# Altium schematic symbol library UWRT_Schematic_Library_2020.SchLib: 766 symbols (part 4 of 8)
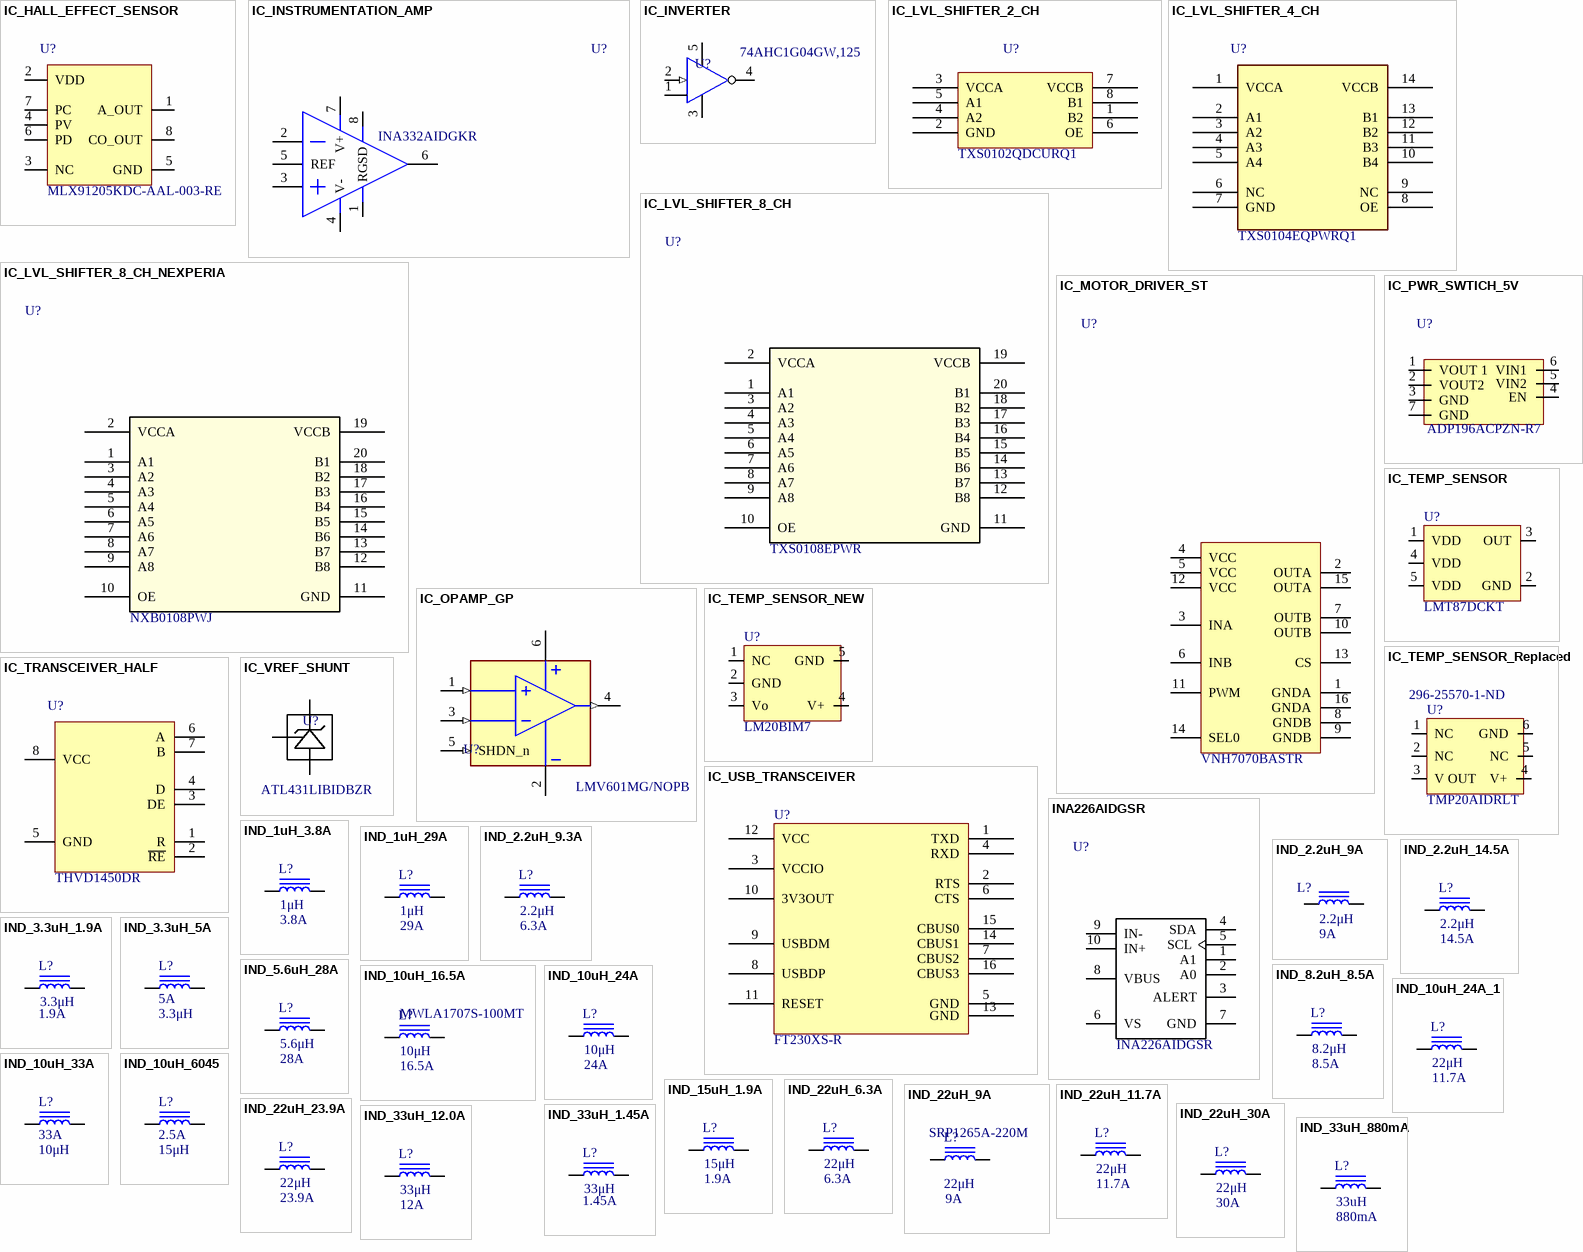
[diagram p28: symbols IC_HALL_EFFECT_SENSOR to IND_33uH_880mA]

## IC_OPAMP_GP
designator U?, comment LMV601MG/NOPB
IC OPAMP GP 1 CIRCUIT SC70-6; Manufacturer: Texas Instruments; Ratings: 2.7-5.5V, -25-125degC, 1MHz; Manufacturer Part Number: LMV601MG/NOPB; Value: LMV601MG/NOPB
footprint SOT65P210X110-6N
pins: 1 IN+ (in), 2 GND (power), 3 IN- (in), 4 OUT (out), 5 SHDN_n (in), 6 V+ (power)

## IC_PWR_SWTICH_5V
designator U?  Supplier Part Number 1: ADP196ACPZN-R7
IC PWR SWITCH N-CHAN 1:1 6LFCSP; Manufacturer 1: Analog Devices Inc.; Package/Footprint: 6-UDFN Exposed Pad, CSP; Manufacturer Part Number 1: ADP196ACPZN-R7; Mounting Type: SMD; Supplier 1: Arrow Electronics
footprint CP_6_3_ADI-M
pins: 1 VOUT 1, 2 VOUT2, 3 GND "Receiver output", 4 EN "Inverting driver output", 5 VIN2 "Inverting driver output", 6 VIN1 "Noninverting driver output", 7 GND "Receiver output"

## IC_TEMP_SENSOR
designator U?  Manufacturer Part Number 1: LMT87DCKT
SENSOR ANALOG -50C-150C SC70-5; Manufacturer 1: Texas Instruments; Package/Footprint: SC-70; Mounting Type: SMD; Supplier 1: Digi-Key; Supplier Part Number 1: 296-35730-1-ND
footprint SOT65P210X110-5N
pins: 1 VDD, 2 GND, 3 OUT, 4 VDD, 5 VDD

## IC_TEMP_SENSOR_NEW
designator U?  Manufacturer Part Number 1: LM20BIM7
SENSOR ANALOG -55C-130C SC70-5; Manufacturer 1: Texas Instruments; Package/Footprint: SC-70; Mounting Type: SMD; Supplier 1: Digi-Key; Supplier Part Number 1: LM20BIM7CT-ND
footprint SOT65P210X110-5N
pins: 1 NC, 2 GND, 3 Vo, 4 V+, 5 GND

## IC_TEMP_SENSOR_Replaced
designator U?  Manufacturer Part Number 1: TMP20AIDRLT  Supplier Part Number 1: 296-25570-1-ND
SENSOR ANALOG -55C-130C 6SOT; Manufacturer 1: Texas Instruments; Package/Footprint: SOT-563; Mounting Type: SMD; Supplier 1: Digi-Key
footprint DRL6-M
pins: 1 NC, 2 NC, 3 V OUT, 4 V+, 5 NC, 6 GND

## IC_TRANSCEIVER_HALF
designator U?  Manufacturer Part Number 1: THVD1450DR
IC TRANSCEIVER HALF 1/1 8SOIC; Manufacturer 1: Texas Instruments; Protocol: RS485; Supplier 1: Digi-Key; Supplier Part Number 1: 296-50395-1-ND; Package: 8-SOIC
footprint SOIC127P600X175-8N
pins: 1 R, 2 ~{RE}, 3 DE, 4 D, 5 GND, 6 A, 7 B, 8 VCC

## IC_USB_TRANSCEIVER
designator U?  Manufacturer Part Number 1: FT230XS-R
IC USB SERIAL BASIC UART 16SSOP; Manufacturer 1: FTDI, Future Technology Devices International Ltd; Supplier 1: Digi-Key; Supplier Part Number 1: 768-1135-1-ND
footprint SSOP16-0.635-5X4MM
pins: 1 TXD, 2 RTS, 3 VCCIO, 4 RXD, 5 GND, 6 CTS, 7 CBUS2, 8 USBDP, 9 USBDM, 10 3V3OUT, 11 RESET, 12 VCC, 13 GND, 14 CBUS1, 15 CBUS0, 16 CBUS3

## IC_VREF_SHUNT
designator U?  Manufacturer Part Number 1: ATL431LIBIDBZR
IC VREF SHUNT 36V 0.5% SOT23-3; Manufacturer 1: Texas Instruments; Supplier 1: Digi-Key; Supplier Part Number 1: 296-53203-1-ND
footprint SOT23-3 (SOT23, 3-Leads, Body 2.90x2.30mm, Pitch 0.95mm, IPC Medium Density)
pins: 1 CATHODE, 2 REF, 3 ANODE

## INA226AIDGSR
designator U?  Manufacturer Part Number 1: INA226AIDGSR
IC MONITOR PWR/CURR BIDIR 10MSOP; Manufacturer 1: Texas Instruments; Supplier 1: Digi-Key; Supplier Part Number 1: 296-29034-6-ND
footprint INA226AIDGSR
pins: 1 A1, 2 A0, 3 ALERT, 4 SDA, 5 SCL, 6 VS, 7 GND, 8 VBUS, 9 IN-, 10 IN+

## IND_1uH_3.8A
designator L?  value 1μH  Current Rating: 3.8A
INDUCTOR 1UH 3.8A 33 MOHM SMD; Manufacturer 1: Bourns Inc.; Manufacturer Part Number 1: SDR0403-1R0ML; Supplier Part Number 1: SDR0403-1R0MLCT-ND; Supplier 1: Digi-Key; Mounting Type: SMD; Package/Footprint: SMD
footprint IND_BOURNS_SDR04
pins: 1, 2

## IND_1uH_29A
designator L?  Current Rating: 29A  Inductance: 1μH
INDUCTOR 1UH 29A 2.5 MOHM SMD; Manufacturer 1: Bourns Inc.; Manufacturer Part Number 1: SRP1250-1R0M; Inductance Tolerance: 20%; Saturation Current: 50A; Test Frequency: 100kHz; DC Resistance (DCR): 2.5mOhm; Mounting Type: SMD; Supplier 1: Digi-Key; Supplier Part Number 1: SRP1250-1R0MCT-ND
footprint IND_BOURNS_SRP1250
pins: 1, 2

## IND_2.2uH_9.3A
designator L?  Inductance: 2.2μH  Max DC Current: 6.3A
INDUCTOR 2.2UH 6.3A 13 MOHM SMD; Manufacturer 1: Bourns; Manufacturer Part Number 1: SRN8040-2R2Y; Material: Steel; DC Resistance (DCR): 13mR; Self Resonant Frequency: 40MHz; Test Frequency: 100kHz; Shielding: Shielded; Inductance Tolerance: 30%; Saturation Current: 7.4A; Supplier 1: Digi-Key; Mounting Type: SMD; Package/Footprint: SMD; Number of Pins: 2; Contact Plating: Tin; Composition: Wirewound; DC Current: 6.3A; Military Standard: Not; RMS Current (Irms): 6.3A; Current Rating: 6.3A; ComponentLink7URL: https://datasheet.ciiva.com/1049/srn8040-1049455.pdf?src-supplier=Digi-Key; ComponentLink7Description: https://datasheet.ciiva.com/1049/srn8040-1049455.pdf?src-supplier=Digi-Key; ComponentLink8URL: https://datasheet.ciiva.com/17284/srn8040-17284783.pdf?src-supplier=Avnet+Europe; ComponentLink8Description: https://datasheet.ciiva.com/17284/srn8040-17284783.pdf?src-supplier=Avnet+Europe; ComponentLink9URL: https://datasheet.ciiva.com/48691/001056460-da-01-en-mag-abg-leist-ind-srn8040-2r2y-2-2uh-smd-48691836.pdf?src-supplier=Conrad; ComponentLink9Description: https://datasheet.ciiva.com/48691/001056460-da-01-en-mag-abg-leist-ind-srn8040-2r2y-2-2uh-smd-48691836.pdf?src-supplier=Conrad; Supplier Part Number 1: SRN8040-2R2YCT-ND
footprint IND_BOURNS_SRN80
pins: 1, 2

## IND_2.2uH_9A
designator L?  Current Rating: 9A  Inductance: 2.2μH
INDUCTOR 2.2UH 9A 6.8 MOHM SMD; Manufacturer 1: Bourns; Manufacturer Part Number 1: SDR1806-2R2ML; Supplier 1: Digi-Key; Mounting Type: SMD; DC Resistance (DCR): 6.8mOhm; Supplier Part Number 1: SDR1806-2R2MLCT-ND
footprint IND_BOURNS_SDR1806
pins: 1, 2

## IND_2.2uH_14.5A
designator L?  Current Rating: 14.5A  Inductance: 2.2μH
INDUCTOR 2.2UH 14.5A 9.41 MOHM; Manufacturer 1: Vishay Dale; Manufacturer Part Number 1: IHLP3232DZER2R2M11; Inductance Tolerance: 20%; Saturation Current: 10.2A; DC Resistance (DCR): 9.41mOhm; Mounting Type: SMD; Supplier 1: Digi-Key; Supplier Part Number 1: 541-1350-1-ND
footprint IND_VISHAY_IHLP3232DZER2R2M11
pins: 1, 2

## IND_3.3uH_1.9A
designator L?  DC Current: 1.9A  Inductance: 3.3μH
INDUCTOR 3.3UH SMD 0603; Manufacturer 1: KEMET; Manufacturer Part Number 1: L0603B3R3MDWFT; Saturation Current: 2.3A; Supplier 1: Digi-Key; RMS Current (Irms): 1.9A; Current Rating: 1.9A; Supplier Part Number 1: SRN6045-150MCT-ND
footprint IND_BOURNS_SRN6045
pins: 1, 2

## IND_3.3uH_5A
designator L?  Current Rating: 5A  Inductance: 3.3μH
INDUCTOR 3.3UH 5A 21 MOHM SMD; Manufacturer 1: Bourns Inc.; Manufacturer Part Number 1: SRN6045TA-3R3Y; DC Resistance (DCR): 21mOhm; Inductance Tolerance: 30%; Saturation Current: 7.8A; Test Frequency: 1MHz; Mounting Type: SMD; Supplier 1: Digi-Key; Supplier Part Number 1: SRN6045TA-3R3YCT-ND
footprint IND_SRN6045TA-3R3Y
pins: 1, 2

## IND_5.6uH_28A
designator L?  Current Rating: 28A  Inductance: 5.6μH
FIXED IND 5.6UH 28A 4.44MOHM SMD; Manufacturer 1: Vishay Dale; Manufacturer Part Number 1: IHLP6767GZER5R6M11; Inductance Tolerance: 20%; Saturation Current: 21A; DC Resistance (DCR): 4.44mOhm; Mounting Type: SMD; Supplier 1: Digi-Key; Supplier Part Number 1: 541-1283-1-ND
footprint IND_VISHAY_IHLP6767GZ11 (Molded Inductor, 2-Leads, Body 17.15x17.03mm, IPC Medium Density)
pins: 1, 2

## IND_8.2uH_8.5A
designator L?  value 8.2μH  Current Rating: 8.5A
FIXED IND 8.2UH 8.5A 28 MOHM SMD; Manufacturer 1: Vishay Dale; Manufacturer Part Number 1: IHLP5050CEER8R2M01; Supplier Part Number 1: 541-2596-6-ND; Supplier 1: Digi-Key; Mounting Type: SMD; Package/Footprint: SMD
footprint IND_8.2uH_8.5A
pins: 1, 2

## IND_10uH_16.5A
designator L?  Manufacturer Part Number 1: MWLA1707S-100MT  Current Rating: 16.5A  Inductance: 10μH
FIXED IND 10UH 13MOHM 24000MA; Manufacturer 1: Shenzhen Sunlord Electronics Co., Ltd.; DC Resistance (DCR): 13mR; Saturation Current: 24A; Supplier 1: Digi-Key; Supplier Part Number 1: 3442-MWLA1707S-100MTCT-ND
footprint IND_MWLA1707S
pins: 1, 2

## IND_10uH_24A
designator L?  Current Rating: 24A  Inductance: 10μH
FIXED IND 10UH 24A 8.6 MOHM SMD; Manufacturer 1: Pulse Electronics Power; Manufacturer Part Number 1: PA2247.103NLT; DC Resistance (DCR): 8.6mR; Saturation Current: 26A; Supplier 1: Digi-Key; Supplier Part Number 1: 553-PA2247.103NLTCT-ND
footprint IND_PULSE_PA2247
pins: 1, 2

## IND_10uH_24A_1
designator L?  Current Rating: 11.7A  Inductance: 22μH
INDUCTOR 22UH 11.7A 22.27 MOHM; Manufacturer 1: Vishay Dale; Manufacturer Part Number 1: IHLP6767GZER220M51; DC Resistance (DCR): 22.27mR; Inductance Tolerance: 20%; Saturation Current: 11A; Supplier 1: Digi-Key; Supplier Part Number 1: 541-1369-1-ND; Mounting Type: SMD
footprint IND_VISHAY_IHLP6767GZ51
pins: 1, 2

## IND_10uH_33A
designator L?  Current Rating: 33A  Inductance: 10μH
FIXED IND 10UH 33A 1.92 MOHM SMD; Manufacturer 1: EPCOS - TDK Electronics; Manufacturer Part Number 1: B82559B7103A027; Supplier Part Number 1: 495-B82559B7103A027CT-ND; Supplier 1: Digi-Key
footprint IND_B82559B7103A027 (Precision Wire Wound Inductor, 2-Leads, Body 27.65x25.65mm, IPC Medium Density)
pins: 1, 2

## IND_10uH_6045
designator L?  Current Rating: 2.5A  Inductance: 15μH
INDUCTOR 10UH 2.5A 58.6MOHM SMD; Manufacturer 1: Bourns Inc.; Manufacturer Part Number 1: SRN6045-100M; Supplier Part Number 1: SRN6045-100MTR-ND; Supplier 1: Digi-Key
footprint IND_BOURNS_SRN6045
pins: 1, 2

## IND_15uH_1.9A
designator L?  Current Rating: 1.9A  Inductance: 15μH
INDUCTOR 15UH 1.9A 95.8MOHM SMD; Manufacturer 1: Bourns Inc.; Manufacturer Part Number 1: SRN6045-150M; DC Resistance (DCR): 95.8mR; Saturation Current: 2.3A; Supplier 1: Digi-Key; Supplier Part Number 1: SRN6045-150MCT-ND
footprint IND_BOURNS_SRN6045
pins: 1, 2

## IND_22uH_6.3A
designator L?  Current Rating: 6.3A  Inductance: 22μH
FIXED IND 22UH 6.3A 25.7MOHM SMD; Manufacturer 1: Eaton - Electronics Division; Manufacturer Part Number 1: HC9-220-R; DC Resistance (DCR): 22.27mR; Inductance Tolerance: 20%; Saturation Current: 11A; Supplier 1: Digi-Key; Supplier Part Number 1: 513-1349-1-ND; Mounting Type: SMD
pins: 1, 2

## IND_22uH_9A
designator L?  Manufacturer Part Number 1: SRP1265A-220M  Current Rating: 9A  Inductance: 22μH
22UH 20%  SMD POWER CHOKE; Manufacturer 1: Bourns Inc.; DC Resistance (DCR): 37mOhms; Saturation Current: 12A; Inductance Tolerance: 20%; Mounting Type: SMD; Supplier 1: Arrow Electronics; Supplier Part Number 1: SRP1265A-220M
footprint IND_BOURNS_SRP1265
pins: 1, 2

## IND_22uH_11.7A
designator L?  Current Rating: 11.7A  Inductance: 22μH
FIXED IND 10UH 13MOHM 24000MA; Manufacturer 1: Vishay Dale; Manufacturer Part Number 1: IHLP6767GZER220M51; DC Resistance (DCR): 22.27mR; Inductance Tolerance: 20%; Saturation Current: 11A; Supplier 1: Digi-Key; Supplier Part Number 1: 541-1369-1-ND; Mounting Type: SMD
footprint IND_VISHAY_IHLP6767GZ51
pins: 1, 2

## IND_22uH_23.9A
designator L?  Current Rating: 23.9A  Inductance: 22μH
FIXED IND 22UH 30A 2.4 MOHM SMD; Manufacturer 1: Würth Elektronik; Manufacturer Part Number 1: 74437529203220; DC Resistance (DCR): 4.9mR; Inductance Tolerance: 20%; Saturation Current: 23.9A; Supplier 1: Digi-Key; Mounting Type: SMD; Supplier Part Number 1: 732-11711-ND
footprint IND_VISHAY_IHLP6767GZ51
footprint 74437529203220
pins: 1, 2

## IND_22uH_30A
designator L?  Current Rating: 30A  Inductance: 22μH
FIXED IND 22UH 30A 2.4 MOHM SMD; Manufacturer 1: Würth Elektronik; Manufacturer Part Number 1: 7443642200; DC Resistance (DCR): 2.4mR; Inductance Tolerance: 15%; Saturation Current: 30A; Supplier 1: Digi-Key; Mounting Type: SMD; Supplier Part Number 1: 732-5628-ND
footprint IND_VISHAY_IHLP6767GZ51
footprint 74437529203220
footprint Model Name (Footprint not found)
footprint 7443642200
pins: 1, 2

## IND_33uH_1.45A
designator L?  DC Current: 1.45A  Inductance: 33μH
INDUCTOR 33UH 1.45A SMD ROHS; Manufacturer 1: CENKER; Manufacturer Part Number 1: CKCS6045-33uH; DC Resistance (DCR): 137mΩ; RMS Current (Irms): 1.45A; LCSC Number: C354635
footprint IND_CKCS6045
pins: 1, 2

## IND_33uH_12.0A
designator L?  Current Rating: 12A  Inductance: 33μH
INDUCTOR 33UH 12A 37 MOHM SMD; Manufacturer 1: Pulse Electronics Power; Manufacturer Part Number 1: PA4344.333ANLT; DC Resistance (DCR): 37mR; Inductance Tolerance: 20%; Saturation Current: 12A; Mounting Type: SMD; Supplier 1: Digi-Key; Supplier Part Number 1: 553-4036-1-ND
footprint IND_PULSE_PA4344
pins: 1, 2

## IND_33uH_880mA
designator L?  RMS Current (Irms): 880mA  Inductance: 33uH  (hidden comment: IND_33uH_880mA)
INDUCTOR 33UH 880MA 250MOHM SMD; Manufacturer 1: Bourns; Manufacturer Part Number 1: SDR0604-330KL; DC Resistance (DCR): 250mR; Inductance Tolerance: 10%; Saturation Current: 1.1A; Supplier 1: Digi-Key; Max DC Current: 880mA; DC Current: 880mA; Military Standard: Not; Current Rating: 880mA; Supplier Part Number 1: SDR0604-330KLCT-ND
footprint IND_BOURNS_SDR0604
pins: 1, 2

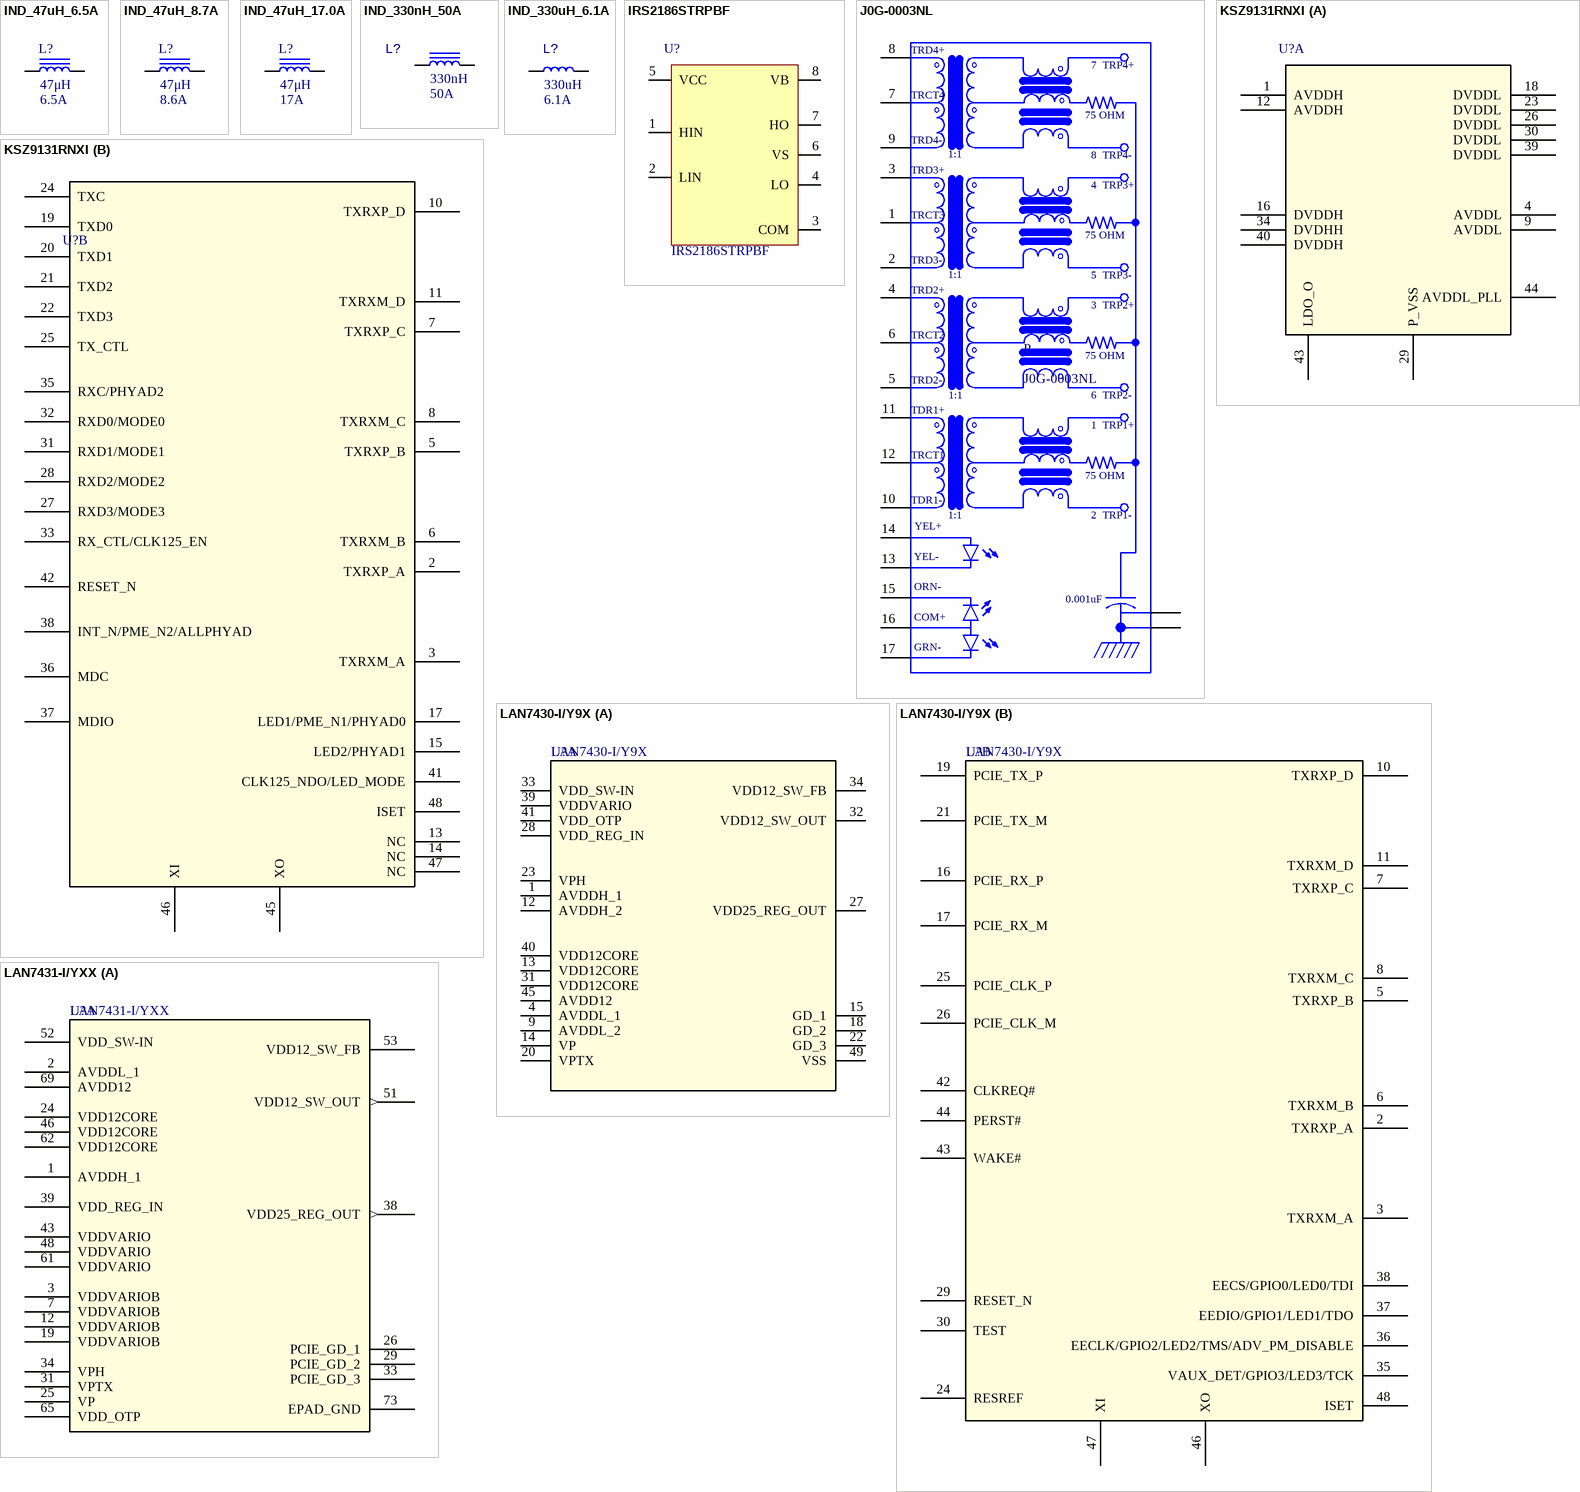
[diagram p10: symbols IND_47uH_6.5A to LAN7431-I/YXX]

## IND_47uH_6.5A
designator L?  Current Rating: 6.5A  Inductance: 47μH
FIXED IND 47UH 6.5A 90 MOHM SMD; Manufacturer 1: Bourns Inc.; Manufacturer Part Number 1: SRP1265A-470M; DC Resistance (DCR): 90mR; Saturation Current: 9A; Supplier 1: Digi-Key; Supplier Part Number 1: SRP1265A-470MCT-ND
footprint IND_BOURNS_SRP1265
pins: 1, 2

## IND_47uH_8.7A
designator L?  Saturation Current: 8.6A  Inductance: 47μH
INDUCTOR 47UH 8.7A 42.7 MOHM; Manufacturer 1: Vishay Dale; Manufacturer Part Number 1: IHLP6767GZER220M51; DC Resistance (DCR): 42.7mR; Current Rating: 8.7A; Mounting Type: SMD; Supplier 1: Digi-Key; Supplier Part Number 1: 541-1290-1-ND
footprint IND_VISHAY_IHLP6767GZ51
pins: 1, 2

## IND_47uH_17.0A
designator L?  Current Rating: 17A  Inductance: 47μH
INDUCTOR 47UH 17A 20.8 MOHM SMD; Manufacturer 1: Pulse Electronics Power; Manufacturer Part Number 1: PA4349.473ANLT; DC Resistance (DCR): 20.8mR; Inductance Tolerance: 20%; Saturation Current: 12A; Mounting Type: SMD; Supplier 1: Digi-Key; Supplier Part Number 1: 553-4050-1-ND
footprint IND_PULSE_PA4349
pins: 1, 2

## IND_330nH_50A
designator L?  Max DC Current: 50A  Inductance: 330nH
INDUCTOR 330NH 47.5A 0.165 MOHM; Manufacturer 1: Würth Elektronik; Manufacturer Part Number 1: 744309033; Mounting Type: SMD; Supplier 1: Digi-Key; Supplier Part Number 1: 732-3006-1-ND; Verified: No
footprint WE-HCM 1390 (SMD Inductor, 2-Leads, Body 12,50x13,00mm)
pins: 1, 2

## IND_330uH_6.1A
designator L?  Current Rating: 6.1A  Inductance: 330uH
General Purpose Inductor; Manufacturer: Wurth Electronics; Manufacturer Part Number: 74437529203331; Supplier 1: Digi-Key; RoHS: Yes; Category: Fixed Inductors; Stock 1: 443; Pricing 1: 1=8.85000, 50=7.76200, 100=6.93000, 270=6.30000 (USD); Inductor Type: GENERAL PURPOSE INDUCTOR; REACH SVHC: Yes; RoHS Compliant: Yes; ComponentLink1URL: https://datasheet.ciiva.com:443/pdfs/VipMasterIC/IC/MIDC/MIDC-S-A0004023785/MIDC-S-A0004024368-1.pdf?src-supplier=IHS+Markit; ComponentLink1Description: https://datasheet.ciiva.com:443/pdfs/VipMasterIC/IC/MIDC/MIDC-S-A0004023785/MIDC-S-A0004024368-1.pdf?src-supplier=IHS+Markit; ComponentLink2URL: https://katalog.we-online.de/pbs/datasheet/74437529203331.pdf?src-supplier=Digi-Key; ComponentLink2Description: https://katalog.we-online.de/pbs/datasheet/74437529203331.pdf?src-supplier=Digi-Key; Supplier Part Number 1: 732-11718-ND
footprint 74437529203331
pins: 1, 2

## IRS2186STRPBF
designator U?  Manufacturer Part Number 1: IRS2186STRPBF
IC DRIVER HI/LO SIDE 600V 8-SOIC; Manufacturer 1: International Rectifier; Max Supply Current: 240uA; Number of Outputs: 2; Max Power Dissipation: 625mW; Fall Time: 30ns; Turn-Off Delay Time: 170ns; Rise Time: 38ns; Propagation Delay: 250ns; Max Output Current: 4A; Supplier 1: Digi-Key; Number of Pins: 8; Number of Drivers: 2; Turn-On Delay Time: 170ns; Power Dissipation: 625mW; Output Current: 4A; Supplier Part Number 1: IRS2186STRPBFCT-ND
footprint 8-SOIC_M (SOIC, 8-Leads, Body 5x4mm, Pitch 1.27mm, IPC Low Density)
pins: 1 HIN, 2 LIN, 3 COM, 4 LO, 5 VCC, 6 VS, 7 HO, 8 VB

## J0G-0003NL
designator P
1 Port RJ45 Magjack Connector Through Hole 10/100/1000 Base-T, AutoMDIX; MF: Pulse Electronics; Digi-Key_Part_Number: 553-1852-ND; Package: Custom Package Pulse Electronics Network; MP: J0G-0003NL; SnapEDA_Link: https://www.snapeda.com/parts/J0G-0003NL/Pulse%20Electronics%20Network/view-part/368728/?ref=snap; Digi-Key_Purchase_URL: https://www.digikey.com/product-detail/en/pulse-electronics-network/J0G-0003NL/553-1852-ND/2264761?utm_source=snapeda&utm_medium=aggregator&utm_campaign=symbol; Value: *
footprint PULSE_J0G-0003NL
pins: 1 TRCT3, 2 TRD3-, 3 TRD3+, 4 TRD2+, 5 TRD2-, 6 TRCT2, 7 TRCT4, 8 TRD4+, 9 TRD4-, 10 TDR1-, 11 TDR1+, 12 TRCT1, 13 YEL-, 14 YEL+, 15 ORN-, 16 COM+, 17 GRN-, SH1 SHIELD (power), SH2 SHIELD (power)
text: 7  TRP4+; 75 OHM; 1:1; 8  TRP4-; 4  TRP3+; 5  TRP3-; 3  TRP2+; 6  TRP2-; 1  TRP1+; 2  TRP1-; 0.001uF

## KSZ9131RNXI
designator U?
4/4 Transceiver Full, Half Gigabit Ethernet 48-QFN (7x7); Manufacturer 1: Microchip Technology; Manufacturer Part Number 1: KSZ9131RNXI; Supplier 1: Digi-Key; Supplier Part Number 1: 150-KSZ9131RNXI-ND
footprint KSZ9131RNXI
part A pins: 1 AVDDH (power), 4 AVDDL (power), 9 AVDDL (power), 12 AVDDH (power), 16 DVDDH (power), 18 DVDDL (power), 23 DVDDL (power), 26 DVDDL (power), 29 P_VSS (power), 30 DVDDL (power), 34 DVDHH (power), 39 DVDDL (power), 40 DVDDH (power), 43 LDO_O (power), 44 AVDDL_PLL (power)
part B pins: 2 TXRXP_A, 3 TXRXM_A, 5 TXRXP_B, 6 TXRXM_B, 7 TXRXP_C, 8 TXRXM_C, 10 TXRXP_D, 11 TXRXM_D, 13 NC, 14 NC, 15 LED2/PHYAD1, 17 LED1/PME_N1/PHYAD0, 19 TXD0, 20 TXD1, 21 TXD2, 22 TXD3, 24 TXC, 25 TX_CTL, 27 RXD3/MODE3, 28 RXD2/MODE2, 31 RXD1/MODE1, 32 RXD0/MODE0, 33 RX_CTL/CLK125_EN, 35 RXC/PHYAD2, 36 MDC, 37 MDIO, 38 INT_N/PME_N2/ALLPHYAD, 41 CLK125_NDO/LED_MODE, 42 RESET_N, 45 XO, 46 XI, 47 NC, 48 ISET

## LAN7430-I/Y9X
designator U?  Manufacturer Part Number 1: LAN7430-I/Y9X
IC ETHERNET CNTRLR GPIO 48SQFN; Manufacturer 1: Microchip Technology; Supplier 1: Digi-Key; Supplier Part Number 1: LAN7430-I/Y9X-ND
footprint LAN7430-I/Y9X-ND
part A pins: 1 AVDDH_1, 4 AVDDL_1, 9 AVDDL_2, 12 AVDDH_2, 13 VDD12CORE, 14 VP, 15 GD_1, 18 GD_2, 20 VPTX, 22 GD_3, 23 VPH, 27 VDD25_REG_OUT, 28 VDD_REG_IN, 31 VDD12CORE, 32 VDD12_SW_OUT, 33 VDD_SW-IN, 34 VDD12_SW_FB, 39 VDDVARIO, 40 VDD12CORE, 41 VDD_OTP, 45 AVDD12, 49 VSS
part B pins: 2 TXRXP_A, 3 TXRXM_A, 5 TXRXP_B, 6 TXRXM_B, 7 TXRXP_C, 8 TXRXM_C, 10 TXRXP_D, 11 TXRXM_D, 16 PCIE_RX_P, 17 PCIE_RX_M, 19 PCIE_TX_P, 21 PCIE_TX_M, 24 RESREF, 25 PCIE_CLK_P, 26 PCIE_CLK_M, 29 RESET_N, 30 TEST, 35 VAUX_DET/GPIO3/LED3/TCK, 36 EECLK/GPIO2/LED2/TMS/ADV_PM_DISABLE, 37 EEDIO/GPIO1/LED1/TDO, 38 EECS/GPIO0/LED0/TDI, 42 CLKREQ#, 43 WAKE#, 44 PERST#, 46 XO, 47 XI, 48 ISET

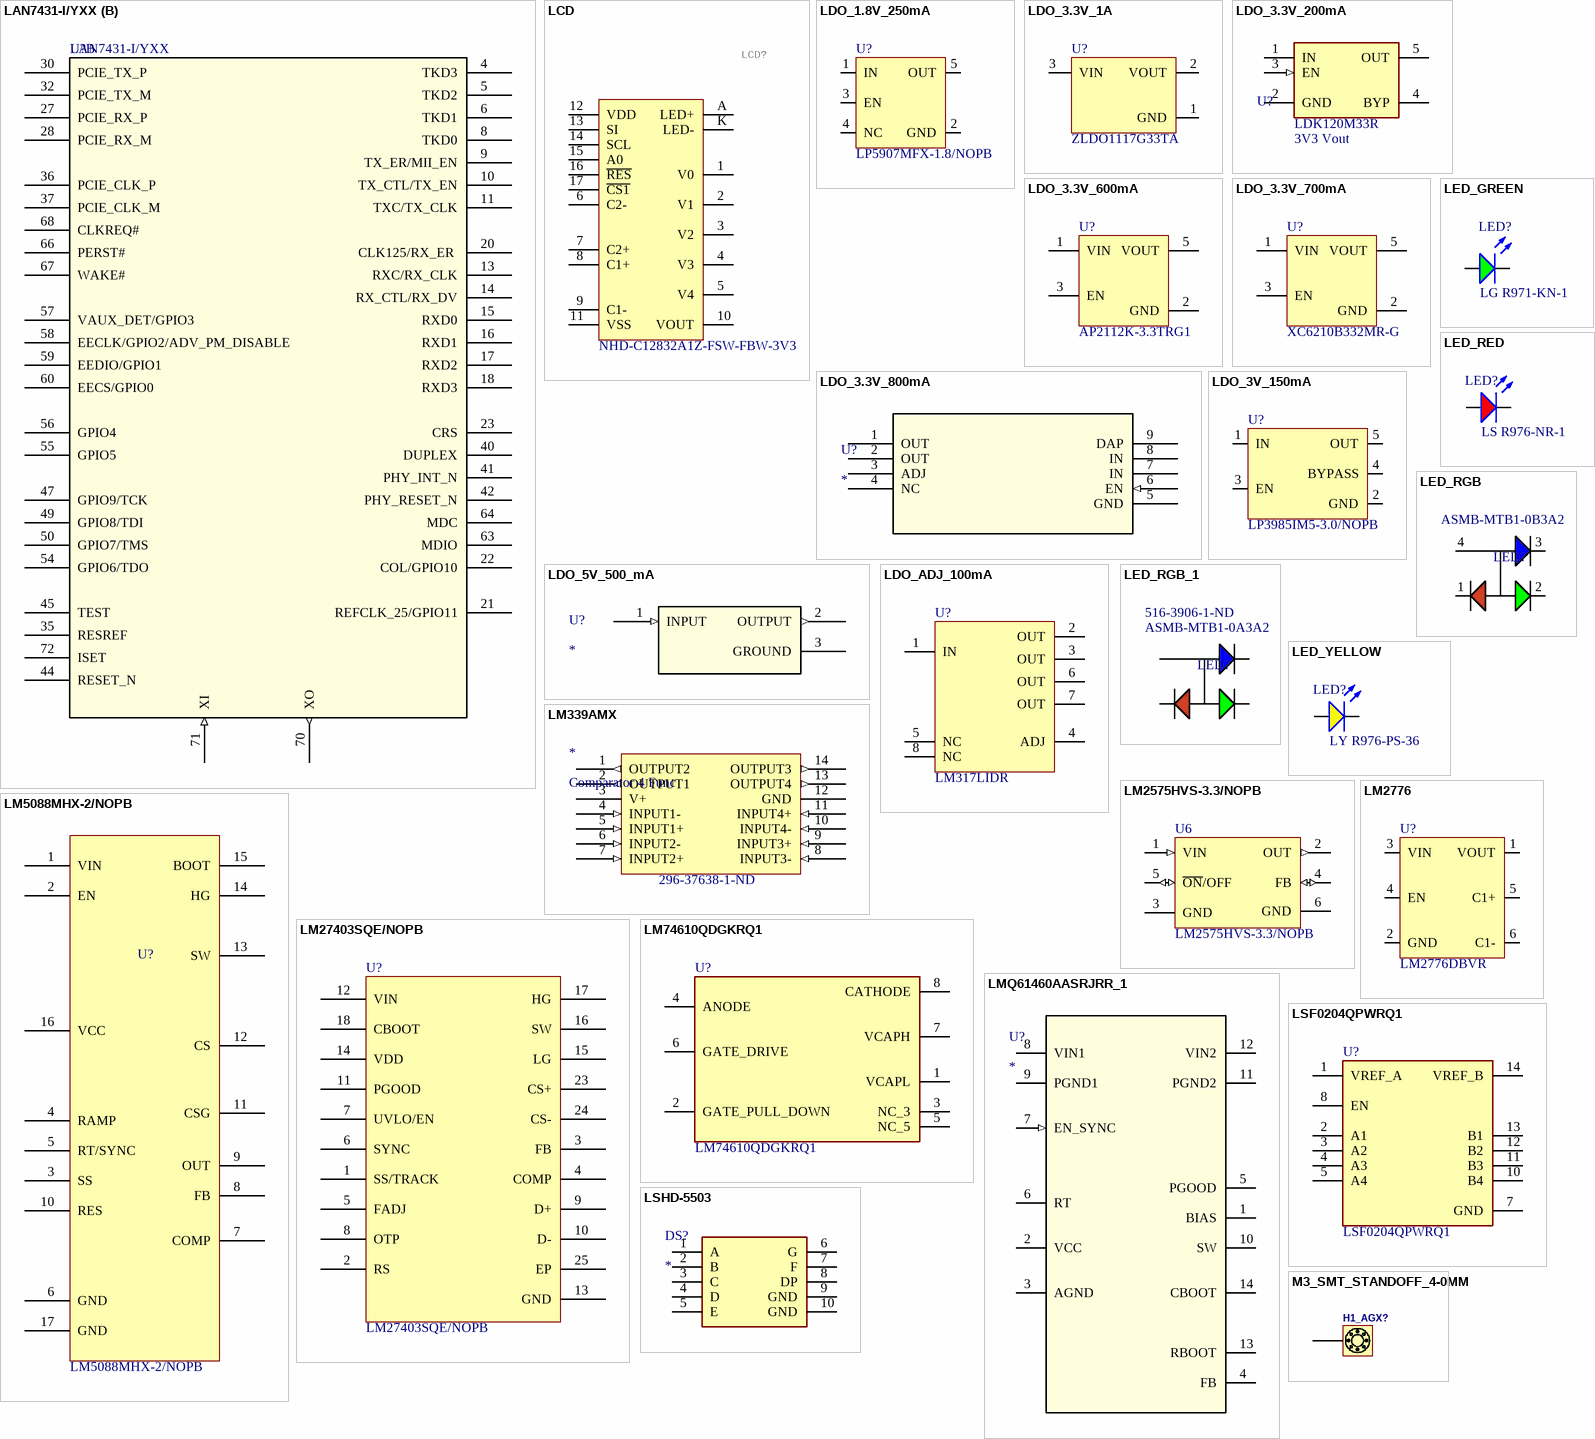
[diagram p11: symbols LAN7431-I/YXX to M3_SMT_STANDOFF_4-0MM]

## LAN7431-I/YXX
designator U?  Manufacturer Part Number 1: LAN7431-I/YXX
IC ETHERNET CNTRLR GPIO 72SQFN; Manufacturer 1: Microchip; Supplier 1: Digi-Key; Supplier Part Number 1: LAN7431-I/YXX-ND
part A pins: 1 AVDDH_1 (power), 2 AVDDL_1 (power), 3 VDDVARIOB (power), 7 VDDVARIOB (power), 12 VDDVARIOB (power), 19 VDDVARIOB (power), 24 VDD12CORE (power), 25 VP (power), 26 PCIE_GD_1 (power), 29 PCIE_GD_2 (power), 31 VPTX (power), 33 PCIE_GD_3 (power), 34 VPH (power), 38 VDD25_REG_OUT (out), 39 VDD_REG_IN (power), 43 VDDVARIO (power), 46 VDD12CORE (power), 48 VDDVARIO (power), 51 VDD12_SW_OUT (out), 52 VDD_SW-IN (power), 53 VDD12_SW_FB (power), 61 VDDVARIO (power), 62 VDD12CORE (power), 65 VDD_OTP (power), 69 AVDD12 (power), 73 EPAD_GND
part B pins: 4 TKD3, 5 TKD2, 6 TKD1, 8 TKD0, 9 TX_ER/MII_EN, 10 TX_CTL/TX_EN, 11 TXC/TX_CLK, 13 RXC/RX_CLK, 14 RX_CTL/RX_DV, 15 RXD0, 16 RXD1, 17 RXD2, 18 RXD3, 20 CLK125/RX_ER , 21 REFCLK_25/GPIO11, 22 COL/GPIO10, 23 CRS, 27 PCIE_RX_P, 28 PCIE_RX_M, 30 PCIE_TX_P, 32 PCIE_TX_M, 35 RESREF, 36 PCIE_CLK_P, 37 PCIE_CLK_M, 40 DUPLEX, 41 PHY_INT_N, 42 PHY_RESET_N, 44 RESET_N, 45 TEST, 47 GPIO9/TCK, 49 GPIO8/TDI, 50 GPIO7/TMS, 54 GPIO6/TDO, 55 GPIO5, 56 GPIO4, 57 VAUX_DET/GPIO3, 58 EECLK/GPIO2/ADV_PM_DISABLE, 59 EEDIO/GPIO1, 60 EECS/GPIO0, 63 MDIO, 64 MDC, 66 PERST#, 67 WAKE#, 68 CLKREQ#, 70 XO (out), 71 XI (in), 72 ISET

## LCD
designator LCD?  Manufacturer Part Number 1: NHD-C12832A1Z-FSW-FBW-3V3
LCD COG GRAPHIC 128X32; Manufacturer 1: Newhaven Display Intl; Supplier 1: Digi-Key; Supplier Part Number 1: NHD-C12832A1Z-FSW-FBW-3V3-ND
footprint NHDC12832A1ZFSWFBW3V3
pins: 1 V0, 2 V1, 3 V2, 4 V3, 5 V4, 6 C2-, 7 C2+, 8 C1+, 9 C1-, 10 VOUT, 11 VSS, 12 VDD, 13 SI, 14 SCL, 15 A0, 16 ~{RES}, 17 ~{CS1}, A LED+, K LED-

## LDO_1.8V_250mA
designator U?  Manufacturer Part Number 1: LP5907MFX-1.8/NOPB
IC REG LINEAR 1.8V 250MA SOT23-5; Manufacturer 1: Texas Instruments; Current Output: 250mA; Supplier Part Number 1: 296-41463-1-ND; Supplier 1: Digi-Key
footprint LP5907MFX-1.8/NOPB
pins: 1 IN, 2 GND, 3 EN, 4 NC, 5 OUT

## LDO_3.3V_1A
designator U?  Manufacturer Part Number 1: ZLDO1117G33TA
IC REG LINEAR 3.3V 1A SOT223; Manufacturer 1: Diodes Incorperated; Input Voltage (Max): 18V; Voltage Dropout (Max): 1.3V@1A; Package/Footprint: SOT-224; Supplier 1: Digi-Key; Supplier Part Number 1: ZLDO1117G33DICT-ND; Output Voltage (Fixed): 3.3V; Output Current: 1A; Operating Temperature: -40°C - 125°C; Mounting Type: Surface Mount
footprint ZLDO1117G33TA (SOT223, 4-Leads, Body 6.50x7.00mm (avg), Pitch 2.30mm, IPC Medium Density)
pins: 1 GND, 2 VOUT, 3 VIN

## LDO_3.3V_200mA
designator U?  Rating: 3V3 Vout  Manufacturer Part Number: LDK120M33R  (hidden comment: *)
IC REG LINEAR 3.3V 200MA SOT23-5
footprint SOT23-5
pins: 1 IN (power), 2 GND (power), 3 EN (in), 4 BYP, 5 OUT (power)

## LDO_3.3V_600mA
designator U?  Manufacturer Part Number 1: AP2112K-3.3TRG1
IC REG LINEAR 3.3V 600MA SOT25; Manufacturer 1: Diodes Incorporated; Input Voltage (Max): 6V; Voltage Dropout (Max): 0.4V; Package/Footprint: SOT-25; Supplier 1: Digi-Key; Supplier Part Number 1: AP2112K-3.3TRG1DICT-ND; Output Voltage (Fixed): 3.3V; Output Current: 600mA; Operating Temperature: -40°C - 85°C; LCSC Part #: C51118; Mounting Type: SMD
footprint SOT95P285X140-5N (AP2112K-3.3TRG1 LDO)
pins: 1 VIN, 2 GND, 3 EN, 5 VOUT

## LDO_3.3V_700mA
designator U?  Manufacturer Part Number 1: XC6210B332MR-G
IC REG LINEAR 3.3V 700MA SOT25; Manufacturer 1: Diodes Incorporated; Input Voltage (Max): 6V; Voltage Dropout (Max): 0.075V; Package/Footprint: SOT-25; Output Voltage (Fixed): 3.3V; Output Current: 700mA; Operating Temperature: -40°C - 85°C; Mounting Type: SMD; Supplier 1: Digi-Key; Supplier Part Number 1: 893-1075-1-ND
footprint SOT95P285X140-5N (AP2112K-3.3TRG1 LDO)
pins: 1 VIN, 2 GND, 3 EN, 5 VOUT

## LDO_3.3V_800mA
designator U?
footprint LP38511MRX-ADJ/NOPB (233Variable LDO / 2.25V to 5.5V Input Voltage Range)
footprint LP38511MRX-ADJ/NOPB (233Variable LDO / 2.25V to 5.5V Input Voltage Range)
pins: 1 OUT (power), 2 OUT (power), 3 ADJ, 4 NC, 5 GND (power), 6 EN (in), 7 IN (power), 8 IN (power), 9 DAP

## LDO_3V_150mA
designator U?  Manufacturer Part Number 1: LP3985IM5-3.0/NOPB
IC REG LINEAR 3V 150MA SOT23-5; Manufacturer 1: Texas Instruments; Current Output: 150mA; Supplier Part Number 1: LP3985IM5-3.0/NOPBTR-ND; Supplier 1: Digi-Key
footprint SOT23-5
pins: 1 IN, 2 GND, 3 EN, 4 BYPASS, 5 OUT

## LDO_5V_500_mA
designator U?
footprint L78M05CDT-TR (35V to 3.3V LDO)
pins: 1 INPUT (in), 2 OUTPUT (out), 3 GROUND (power)

## LDO_ADJ_100mA
designator U?  Manufacturer Part Number 1: LM317LIDR
IC REG LIN POS ADJ 100MA 8SOIC; Manufacturer 1: Texas Instruments; PSRR: 80dB ~ 65dB (120Hz); Voltage - Input (Max): 38V; Voltage - Output (Min/Fixed): 1.2V; Voltage - Output (Max): 32V; Current - Output: 100mA; Operating Temperature: -40C = 125C; Mounting Type: Surface Mount; Supplier 1: Digi-Key; Supplier Part Number 1: 296-20678-1-ND
footprint LM317LIDR (SOIC-8 LDO)
pins: 1 IN (power) "Unregulated input supply", 2 OUT (power) "Regulator output. A 1.0uF or larger capacitor of any type is required for stability.", 3 OUT (power) "Regulator output. A 1.0uF or larger capacitor of any type is required for stability.", 4 ADJ (power) "Regulator output. A 1.0uF or larger capacitor of any type is required for stability.", 5 NC (power) "Unregulated input supply", 6 OUT (power) "Regulator output. A 1.0uF or larger capacitor of any type is required for stability.", 7 OUT (power) "Regulator output. A 1.0uF or larger capacitor of any type is required for stability.", 8 NC (power) "Unregulated input supply"

## LED_GREEN
designator LED?  Manufacturer Part Number 1: LG R971-KN-1
LED GREEN DIFFUSED 0805 SMD; Manufacturer 1: OSRAM; Forward Voltage Drop: 2.2V; Package/Footprint: 0805; Supplier Part Number 1: 475-1410-1-ND; Supplier 1: Digi-Key; Mounting Type: SMD
footprint LED_0805_GREEN (SMD, 2-Leads, Body 2x1.25mm)
pins: 1 A, 2 K

## LED_RED
designator LED?  Manufacturer Part Number 1: LS R976-NR-1
LED RED DIFFUSED 0805 SMD; Manufacturer 1: OSRAM; Package/Footprint: 0805; Forward Voltage Drop: 2V; Forward Current: 20mA; Supplier Part Number 1: 475-1278-1-ND; Supplier 1: Digi-Key; Mounting Type: SMD
footprint LED_0805_RED (SMD, 2-Leads, Body 2x1.25mm)
pins: 1 A, 2 K

## LED_RGB
designator LED?  Manufacturer Part Number 1: ASMB-MTB1-0B3A2
LED RGB DIFFUSED 4PLCC SMD; Manufacturer 1: Broadcom; Color: Blue,Green,Red; Lens Color: White; Viewing Angle: 115°; Lens Style: Round; Luminous Intensity: 350mcd; Dominant Wavelength: 470nm; Forward Voltage: 3.1V; Test Current: 20mA; Package/Footprint: 4-PLCC; Supplier 1: Digi-Key; Mounting Type: SMD; Number of Pins: 4; Lens Transparency: Diffused; Supplier Part Number 1: 516-ASMB-MTB1-0B3A2CT-ND
footprint LED_RGB
pins: 1 CATHODE (RED), 2 CATHODE (GREEN), 3 CATHODE (BLUE), 4 COMMON ANODE

## LED_RGB_1
designator LED?  Manufacturer Part Number 1: ASMB-MTB1-0A3A2  Supplier Part Number 1: 516-3906-1-ND
LED RGB DIFFUSED 4PLCC SMD; Manufacturer 1: Broadcom; Color: Blue,Green,Red; Lens Color: White; Viewing Angle: 115°; Lens Style: Round; Luminous Intensity: 350mcd; Dominant Wavelength: 470nm; Forward Voltage: 3.1V; Test Current: 20mA; Package/Footprint: 4-PLCC; Mounting Type: SMD; Number of Pins: 4; Lens Transparency: Diffused; Supplier 1: Digi-Key
footprint LED_RGB
pins: 1 CATHODE (RED), 2 CATHODE (GREEN), 3 CATHODE (BLUE), 4 COMMON ANODE

## LED_YELLOW
designator LED?  Manufacturer Part Number 1: LY R976-PS-36
LED YELLOW DIFFUSED 0805 SMD; Manufacturer 1: OSRAM; Forward Voltage Drop: 2.2V; Package: 0805 (2012 Metric); Supplier Part Number 1: 475-2560-1-ND; Supplier 1: Digi-Key
footprint LED_0805_YELLOW (SMD, 2-Leads, Body 2x1.25mm)
pins: 1 A, 2 K

## LM339AMX
designator *, comment Comparator 4 Func  Supplier Part Number 1: 296-37638-1-ND
Comparator, 4 Func, 5000uV Offset-Max, 1300ns Response Time, BIPolar, PDSO14; Manufacturer: TI National Semiconductor; Manufacturer Part Number: LM339AMX; Package Body Material: Plastic; Output Type: OPEN-COLLECTOR; Average Bias Current-Max (IIB): 400nA; Bias Current-Max (IIB) @25C: 250nA; Input Offset Voltage-Max: 4mV; Neg Supply Voltage Limit-Max: 0V; Number of Functions: 4; Package Equivalence Code: SOP14,.25; Power Supplies: 5V; Max Supply Current: 2.5mA; Supply Voltage Limit-Max: 36V; Qualification Status: Not Qualified; Supplier 1: Digi-Key; RoHS: No; Category: Comparators; Stock 1: 4510; Pricing 1: 1=1.51000, 10=1.35100, 25=1.28200, 100=1.05320, 250=0.98452, 500=0.87004, 1000=0.75600 (USD); Package Code: SOP; Number of Pins: 14; Package Shape: Rectangular; Terminal Finish: Tin; Min Operating Temperature: -25°C; Max Operating Temperature: 85°C; JESD-609 Code: e0; Amplifier Type: COMPARATOR; JESD-30 Code: R-PDSO-G14; Moisture Sensitivity Level: 1; Neg Supply Voltage-Nom (Vsup): 0V; Package Style: SMALL OUTLINEMeter; Peak Reflow Temperature (Cel): 235°C; Response Time-Nom: 1300ns; Supply Voltage-Nom (Vsup): 5V; Surface Mount: Yes; Technology: BIPOLAR; Terminal Form: Gull Wing; Terminal Position: DUAL; Length: 8.65mm; Width: 3.9mm; Height - Seated (Max): 1.75mm; Terminal Pitch: 1.27mm; Temperature Grade: OTHER; REACH SVHC: No SVHC; RoHS Compliant: No; ComponentLink1URL: https://www.ti.com:443/lit/ds/symlink/lm139-n.pdf?src-supplier=IHS+Markit; ComponentLink1Description: https://www.ti.com:443/lit/ds/symlink/lm139-n.pdf?src-supplier=IHS+Markit; ComponentLink2URL: https://datasheet.ciiva.com/41798/lm139-n-41798943.pdf?src-supplier=Digi-Key; ComponentLink2Description: https://datasheet.ciiva.com/41798/lm139-n-41798943.pdf?src-supplier=Digi-Key
footprint 14-SOIC
pins: 1 OUTPUT2 (out), 2 OUTPUT1 (out), 3 V+ (power), 4 INPUT1- (in), 5 INPUT1+ (in), 6 INPUT2- (in), 7 INPUT2+ (in), 8 INPUT3- (in), 9 INPUT3+ (in), 10 INPUT4- (in), 11 INPUT4+ (in), 12 GND (power), 13 OUTPUT4 (out), 14 OUTPUT3 (out)

## LM2575HVS-3.3/NOPB
designator U6
Package: None; Price: None; Value: *; MP: LM2575HVS-3.3/NOPB; Availability: Unavailable; Manufacturer Part Number 1: LM2575HVS-3.3/NOPB
footprint VREG_TPS79625KTTR
pins: 1 VIN (in), 2 OUT (out), 3 GND (power), 4 FB (io), 5 ~{ON}/OFF (io), 6 GND (power)

## LM2776
designator U?  Manufacturer Part Number 1: LM2776DBVR
IC REG CHARGE PUMP INV SOT23; Manufacturer 1: Texas Instruments; Supplier Part Number 1: 296-43957-1-ND; Supplier 1: Digi-Key
footprint SOT23-6 (SOT23, 6-Leads, Body 3.05x1.75mm, Pitch 0.95mm, IPC Medium Density)
pins: 1 VOUT, 2 GND, 3 VIN, 4 EN, 5 C1+, 6 C1-

## LM5088MHX-2/NOPB
designator U?, comment Manufacturer Part Number 1: LM5088MHX-2/NOPB  (hidden comment: LM5088)
IC REG CTRLR BUCK 16HTSSOP; Manufacturer 1: Texas Instruments; Supply Voltage: 4.5V - 75V; Switching Frequency: 50kHz - 1MHz; Supplier 1: Digi-Key; Supplier Part Number 1: 296-35302-1-ND; Package: 16-HTSSOP
footprint LM5088
pins: 1 VIN, 2 EN, 3 SS, 4 RAMP, 5 RT/SYNC, 6 GND, 7 COMP, 8 FB, 9 OUT, 10 RES, 11 CSG, 12 CS, 13 SW, 14 HG, 15 BOOT, 16 VCC, 17 GND

## LM27403SQE/NOPB
designator U?  Manufacturer Part Number 1: LM27403SQE/NOPB
IC REG CTRLR BUCK 24WQFN; Manufacturer 1: Texas Instruments; Supply Voltage: 3V - 20V; Switching Frequency: 200kHz - 1.2MHz; Max Duty Cycle: 93%; Supplier Part Number 1: 296-37066-1-ND; Supplier 1: Digi-Key; Package: 24-WQFN Exposed Pad
footprint QFN50P400X400X80-25N
pins: 1 SS/TRACK, 2 RS, 3 FB, 4 COMP, 5 FADJ, 6 SYNC, 7 UVLO/EN, 8 OTP, 9 D+, 10 D-, 11 PGOOD, 12 VIN, 13 GND, 14 VDD, 15 LG, 16 SW, 17 HG, 18 CBOOT, 23 CS+, 24 CS-, 25 EP

## LM74610QDGKRQ1
designator U?  Manufacturer Part Number 1: LM74610QDGKRQ1
IC SMART DIODE CTLR 8VSSOP; Manufacturer 1: Texas Instruments; Supply Voltage (Max): 42V; Package/Footprint: 8-TSSOP; Supplier 1: Digi-Key; Supplier Part Number 1: 296-43067-1-ND; LCSC Part #: C202259; Mounting Type: SMD
footprint SOP65P490X110-8N
pins: 1 VCAPL, 2 GATE_PULL_DOWN, 3 NC_3, 4 ANODE, 5 NC_5, 6 GATE_DRIVE, 7 VCAPH, 8 CATHODE

## LMQ61460AASRJRR_1
designator U?
No Description Available; Mfr_Name: Texas Instruments; TYPE: TYPE; RefDes: RefDes
footprint RJR0014A-MFG
pins: 1 BIAS (power), 2 VCC, 3 AGND (power), 4 FB, 5 PGOOD (oc), 6 RT, 7 EN_SYNC (in), 8 VIN1 (power), 9 PGND1 (power), 10 SW, 11 PGND2 (power), 12 VIN2 (power), 13 RBOOT, 14 CBOOT

## LSF0204QPWRQ1
designator U?  Manufacturer Part Number 1: LSF0204QPWRQ1
4-BITS MULTI-VOLTAGE LEVEL TRANS; Manufacturer 1: Texas Instruments; Channel Type: Bidirectional; Channels per Circuit: 4; Output Type: Open Drain, Push Pull; Data Rate: 100MBd; Voltage - VCCA: 0.8V - 4.5V; Voltage - VCCB: 1.8V - 5.5V; Supplier 1: Digi-Key; Supplier Part Number 1: 296-51425-1-ND; Package: 14-TSSOP
footprint 14-TSSOP
pins: 1 VREF_A, 2 A1, 3 A2, 4 A3, 5 A4, 7 GND, 8 EN, 10 B4, 11 B3, 12 B2, 13 B1, 14 VREF_B

## LSHD-5503
designator DS?
DISPLAY 7SEG 0.56" SGL RED 10DIP; Manufacturer_Name: Lite-On; Datasheet Link: https://componentsearchengine.com/Datasheets/1/LSHD-5503.pdf; Height: 8.25mm; Manufacturer Part Number 1: LSHD-5503; Mouser Part Number: 859-LSHD-5503; Mouser Price/Stock: https://www.mouser.com/Search/Refine.aspx?Keyword=859-LSHD-5503; Arrow Part Number: LSHD-5503; Arrow Price/Stock: https://www.arrow.com/en/products/lshd-5503/lite-on-technology; Supplier Link: https://www.digikey.ca/en/products/detail/lite-on-inc/LSHD-5503/560009
footprint DIPS1524W50P254L1240H825Q10N
pins: 1 A, 2 B, 3 C, 4 D, 5 E, 6 G, 7 F, 8 DP, 9 GND, 10 GND

## M3_SMT_STANDOFF_4-0MM
designator H1_AGX?
ROUND STANDOFF M3X0.5 STEEL 4MM; Manufacturer 1: Würth Elektronik; Manufacturer Part Number 1: 9774040360R; Supplier 1: Digi-Key; Supplier Part Number 1: 732-5271-1-ND
footprint M3_SMT_4-0MM
pins: 0

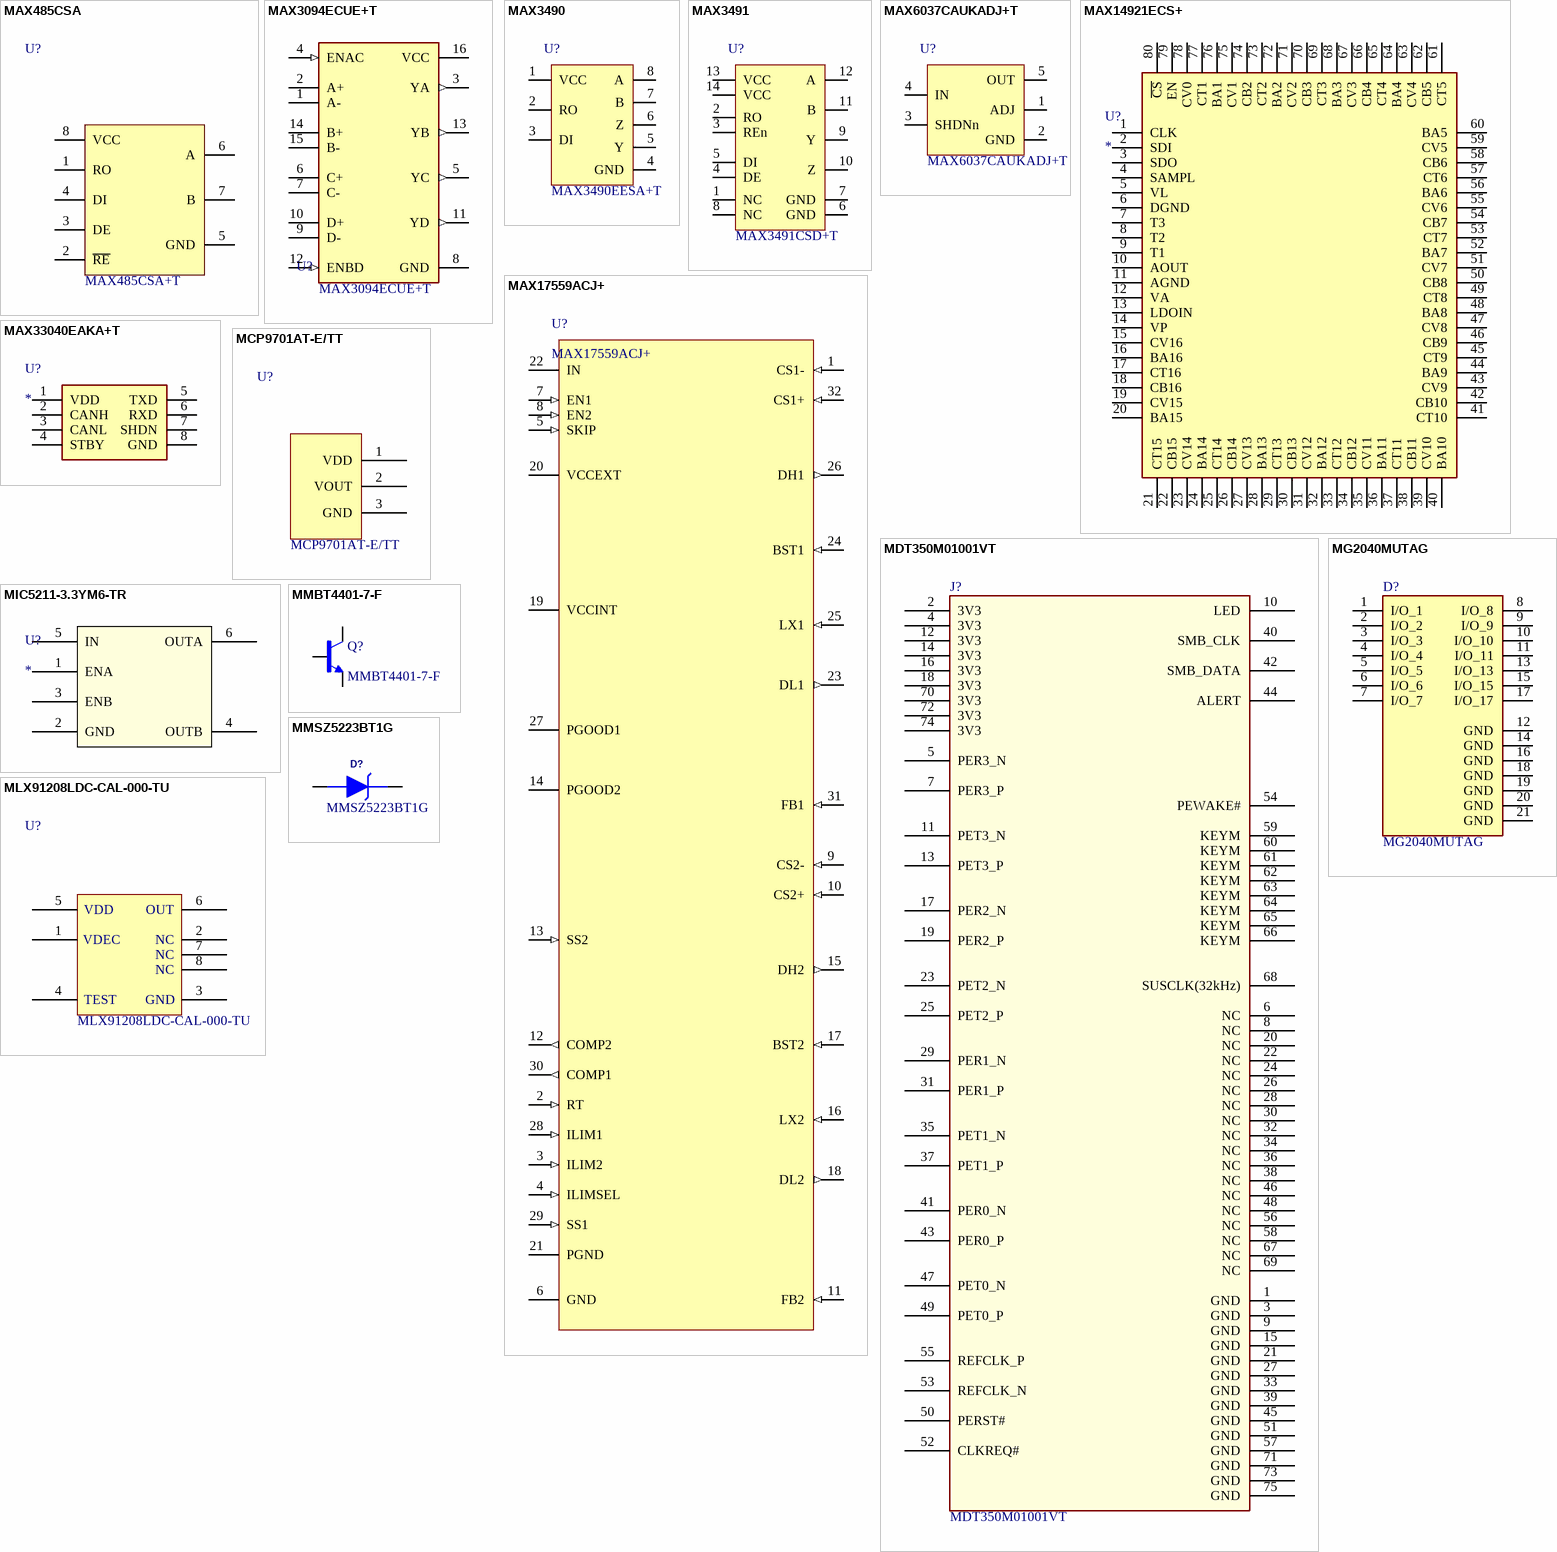
[diagram p12: symbols MAX485CSA to MMSZ5223BT1G]

## MAX485CSA
designator U?  Manufacturer Part Number 1: MAX485CSA+T
IC RS485 TRANSCEIVER HALF 1/1 8SOIC; Manufacturer 1: Maxim Integrated; Protocol: RS422, RS485; Data Rate: 2.5Mbps; Supply Voltage: 4.75V - 5.25V; Package/Footprint: 8-SOIC; Supplier 1: Digi-Key; Supplier Part Number 1: MAX485CSA+TCT-ND; Mounting Type: SMD; LCSC Part #: C9945
footprint SOIC127P600X175-8N
pins: 1 RO, 2 ~{RE}, 3 DE, 4 DI, 5 GND (power), 6 A, 7 B, 8 VCC (power)

## MAX3094ECUE+T
designator U?  Manufacturer Part Number: MAX3094ECUE+T  (hidden comment: *)
IC RECEIVER 0/4 16TSSOP; Rating: 3 - 3.6Vin
footprint SOP65P640X110-16N
pins: 1 A-, 2 A+, 3 YA (out), 4 ENAC (in), 5 YC (out), 6 C+, 7 C-, 8 GND (power), 9 D-, 10 D+, 11 YD (out), 12 ENBD (in), 13 YB (out), 14 B+, 15 B-, 16 VCC (power)

## MAX3490
designator U?  Manufacturer Part Number 1: MAX3490EESA+T
IC RS485 TRANSCEIVER FULL 8SOIC; Manufacturer 1: Maxim; Supplier 1: Digi-Key; Supplier Part Number 1: MAX3490EESA+CT-ND
footprint 8-SOIC_M (SOIC, 8-Leads, Body 5x4mm, Pitch 1.27mm, IPC Low Density)
pins: 1 VCC, 2 RO, 3 DI, 4 GND, 5 Y, 6 Z, 7 B, 8 A

## MAX3491
designator U?  Manufacturer Part Number 1: MAX3491CSD+T
IC RS485 TRANSCEIVER FULL 1/1 14SOIC; Manufacturer 1: Maxim; Package/Footprint: 14-SOIC; Supplier 1: Digi-Key; Mounting Type: SMD; Supplier Part Number 1: MAX3491CSD+CT-ND
footprint MAX3491CSD+T
pins: 1 NC, 2 RO "Receiver output", 3 REn "Receiver output enable", 4 DE "Driver input enable", 5 DI "Driver input", 6 GND, 7 GND, 8 NC, 9 Y "Noninverting driver output", 10 Z "Inverting driver output", 11 B "Inverting receiver input", 12 A "Non-inverting receiver input", 13 VCC, 14 VCC

## MAX6037CAUKADJ+T
designator U?  Manufacturer Part Number 1: MAX6037CAUKADJ+T
IC VREF SERIES 5V 0.5% SOT23-5; Manufacturer 1: Maxim; Package/Footprint: SOT-23-5; Max Input Voltage: 6V; Max Output Current: 5mA; Reference Type: Series,Adjustable; Output Type: Adjustable; Min Output Voltage: 1.184V; Operating Supply Current: 250uA; Supplier 1: Digi-Key; Mounting Type: SMD; Number of Pins: 5; Output Voltage: 5V; Max Output Voltage: 5V; Package Quantity: 2500; Quiescent Current: 250uA; Output Current: 5mA; Reference Voltage: 5V; Supplier Part Number 1: MAX6037CAUKADJ+TCT-ND
footprint SOT23-5
pins: 1 ADJ, 2 GND, 3 SHDNn, 4 IN, 5 OUT

## MAX14921ECS+
designator U?
IC 16s BMS; Manufacturer_Name: Maxim Integrated; Manufacturer Part Number 1: MAX14921ECS+; Datasheet Link: http://pdfserv.maximintegrated.com/package_dwgs/21-0072.PDF; Height: 1.2mm; Mouser Part Number: 700-MAX14921ECS+; Mouser Price/Stock: https://www.mouser.co.uk/ProductDetail/Maxim-Integrated/MAX14921ECS%2b?qs=Vwh6e7toGLhlnKi5DjCusg%3D%3D
footprint QFP50P1400X1400X120-80N
pins: 1 CLK, 2 SDI, 3 SDO, 4 SAMPL, 5 VL, 6 DGND, 7 T3, 8 T2, 9 T1, 10 AOUT, 11 AGND, 12 VA, 13 LDOIN, 14 VP, 15 CV16, 16 BA16, 17 CT16, 18 CB16, 19 CV15, 20 BA15, 21 CT15, 22 CB15, 23 CV14, 24 BA14, 25 CT14, 26 CB14, 27 CV13, 28 BA13, 29 CT13, 30 CB13, 31 CV12, 32 BA12, 33 CT12, 34 CB12, 35 CV11, 36 BA11, 37 CT11, 38 CB11, 39 CV10, 40 BA10, 41 CT10, 42 CB10, 43 CV9, 44 BA9, 45 CT9, 46 CB9, 47 CV8, 48 BA8, 49 CT8, 50 CB8, 51 CV7, 52 BA7, 53 CT7, 54 CB7, 55 CV6, 56 BA6, 57 CT6, 58 CB6, 59 CV5, 60 BA5, 61 CT5, 62 CB5, 63 CV4, 64 BA4, 65 CT4, 66 CB4, 67 CV3, 68 BA3, 69 CT3, 70 CB3, 71 CV2, 72 BA2, 73 CT2, 74 CB2, 75 CV1, 76 BA1, 77 CT1, 78 CV0, 79 EN, 80 ~{CS}

## MAX17559ACJ+
designator U?
IC REG CTRLR BUCK 32TQFP; Manufacturer 1: Maxim; Package/Footprint: 32-TQFP; Supplier 1: Digi-Key; Mounting Type: SMD; Supplier Part Number 1: MAX17559ACJ+-ND; Manufacturer Part Number: MAX17559ACJ+
footprint IC_32-TQFP (CQFP, 32-Leads, Body 9.00x9.00mm, Pitch 0.80mm, IPC Medium Density)
pins: 1 CS1- (in), 2 RT (in), 3 ILIM2 (in), 4 ILIMSEL (in), 5 SKIP (in), 6 GND (power), 7 EN1 (in), 8 EN2 (in), 9 CS2- (in), 10 CS2+ (in), 11 FB2 (in), 12 COMP2 (out), 13 SS2 (in), 14 PGOOD2 (oc), 15 DH2 (out), 16 LX2 (in), 17 BST2 (in), 18 DL2 (out), 19 VCCINT (power), 20 VCCEXT (power), 21 PGND (power), 22 IN (power), 23 DL1 (out), 24 BST1 (in), 25 LX1 (in), 26 DH1 (out), 27 PGOOD1 (oc), 28 ILIM1 (in), 29 SS1 (in), 30 COMP1 (out), 31 FB1 (in), 32 CS1+ (in)

## MAX33040EAKA+T
designator U?
Integrated Circuit; Manufacturer_Name: Maxim Integrated; Manufacturer Part Number 1: MAX33040EAKA+T; Datasheet Link: https://datasheets.maximintegrated.com/en/ds/MAX33040E-MAX33041E.pdf; Height: 1.45mm; Mouser Part Number: 700-MAX33040EAKA+T; Mouser Price/Stock: https://www.mouser.co.uk/ProductDetail/Maxim-Integrated/MAX33040EAKA%2bT?qs=IS%252B4QmGtzzrp4y4r9nEH%252Bg%3D%3D
footprint SOT65P280X145-8N
pins: 1 VDD, 2 CANH, 3 CANL, 4 STBY, 5 TXD, 6 RXD, 7 SHDN, 8 GND

## MCP9701AT-E/TT
designator U?  Manufacturer Part Number 1: MCP9701AT-E/TT
IC THERMISTOR; Manufacturer 1: Microchip Technology; Supplier Part Number 1: MCP9701AT-E/TTTR-ND; Supplier 1: Digi-Key
footprint MCP9701AT-E/TT
pins: 1 VDD, 2 VOUT, 3 GND

## MDT350M01001VT
designator J?  Manufacturer Part Number 1: MDT350M01001VT
Card Edge Connector, 67 Contact(s), 2 Row(s), Female, Straight, Surface Mount Terminal; Manufacturer 1: Amphenol; Supplier 1: Digi-Key; Supplier Part Number 1: 609-6591TR-ND
pins: 1 GND, 2 3V3, 3 GND, 4 3V3, 5 PER3_N, 6 NC, 7 PER3_P, 8 NC, 9 GND, 10 LED, 11 PET3_N, 12 3V3, 13 PET3_P, 14 3V3, 15 GND, 16 3V3, 17 PER2_N, 18 3V3, 19 PER2_P, 20 NC, 21 GND, 22 NC, 23 PET2_N, 24 NC, 25 PET2_P, 26 NC, 27 GND, 28 NC, 29 PER1_N, 30 NC, 31 PER1_P, 32 NC, 33 GND, 34 NC, 35 PET1_N, 36 NC, 37 PET1_P, 38 NC, 39 GND, 40 SMB_CLK, 41 PER0_N, 42 SMB_DATA, 43 PER0_P, 44 ALERT, 45 GND, 46 NC, 47 PET0_N, 48 NC, 49 PET0_P, 50 PERST#, 51 GND, 52 CLKREQ#, 53 REFCLK_N, 54 PEWAKE#, 55 REFCLK_P, 56 NC, 57 GND, 58 NC, 59 KEYM, 60 KEYM, 61 KEYM, 62 KEYM, 63 KEYM, 64 KEYM, 65 KEYM, 66 KEYM, 67 NC, 68 SUSCLK(32kHz), 69 NC, 70 3V3, 71 GND, 72 3V3, 73 GND, 74 3V3, 75 GND

## MG2040MUTAG
designator D?  Manufacturer Part Number 1: MG2040MUTAG
TVS DIODE 5VWM 10VC 18UDFN; Manufacturer 1: ON Semiconductor; Supplier 1: Digi-Key; Supplier Part Number 1: MG2040MUTAGCT-ND; Package: 18-UFDFN
footprint DIO_MG2040MUTAG
pins: 1 I/O_1, 2 I/O_2, 3 I/O_3, 4 I/O_4, 5 I/O_5, 6 I/O_6, 7 I/O_7, 8 I/O_8, 9 I/O_9, 10 I/O_10, 11 I/O_11, 12 GND (power), 13 I/O_13, 14 GND (power), 15 I/O_15, 16 GND (power), 17 I/O_17, 18 GND (power), 19 GND (power), 20 GND (power), 21 GND (power)

## MIC5211-3.3YM6-TR
designator U?
Linear Voltage Regulator IC Positive Fixed 2 Output 80mA, 80mA SOT-23-6; Mfr_Name: Microchip; Voltage - Input (Max): 16; Output Type: 3.3V; Package / Case: SOT-23-6; ComponentLink1Description: digikey; ComponentLink1URL: https://www.digikey.ca/en/products/detail/microchip-technology/MIC5211-3-3YM6-TR/1616942
footprint SOT-23-6_M6_MCH
pins: 1 ENA, 2 GND, 3 ENB, 4 OUTB, 5 IN, 6 OUTA

## MLX91208LDC-CAL-000-TU
designator U?  Manufacturer Part Number 1: MLX91208LDC-CAL-000-TU
SENSOR CURRENT HALL 10MT AC/DC; Manufacturer 1: Melexis Technologies NV; Package/Footprint: 8-SOIC; Linearity: 0.75%; Accuracy: 0.1%; Frequency: 200kHz; Supplier 1: Digi-Key; Mounting Type: SMD; Supplier Part Number 1: MLX91208LDC-CAL-000-TU-ND
footprint 8-SOIC_M (SOIC, 8-Leads, Body 5x4mm, Pitch 1.27mm, IPC Low Density)
pins: 1, 2, 3, 4, 5, 6, 7, 8
text: VDD; OUT; VDEC; NC; TEST; GND

## MMBT4401-7-F
designator Q?  Manufacturer Part Number 1: MMBT4401-7-F
TRANS NPN 40V 0.6A SMD SOT23-3; Manufacturer 1: Diodes Incorporated; Current - Collector Cutoff (Max): 100nA; Vce Saturation (Max) @ Ib, Ic: 750mV @ 50mA, 500mA; Frequency - Transition: 250MHz; Current - Collector (Ic) (Max): 600mA; Supplier 1: Digi-Key; Supplier Part Number 1: MMBT4401-FDICT-ND
footprint MMBT4401-7-F
pins: 1, 2, 3

## MMSZ5223BT1G
designator D?  Manufacturer Part Number 1: MMSZ5223BT1G
DIODE ZENER 2.7V 500MW SOD123; Manufacturer 1: On Semiconductor; Forward Voltage: 900mV @ 10mA; Voltage - Zener: 2.7V; Power - Max: 500mW; Package: SOD-123
footprint ON SEMI SOD-123
pins: 1 C, 2 A

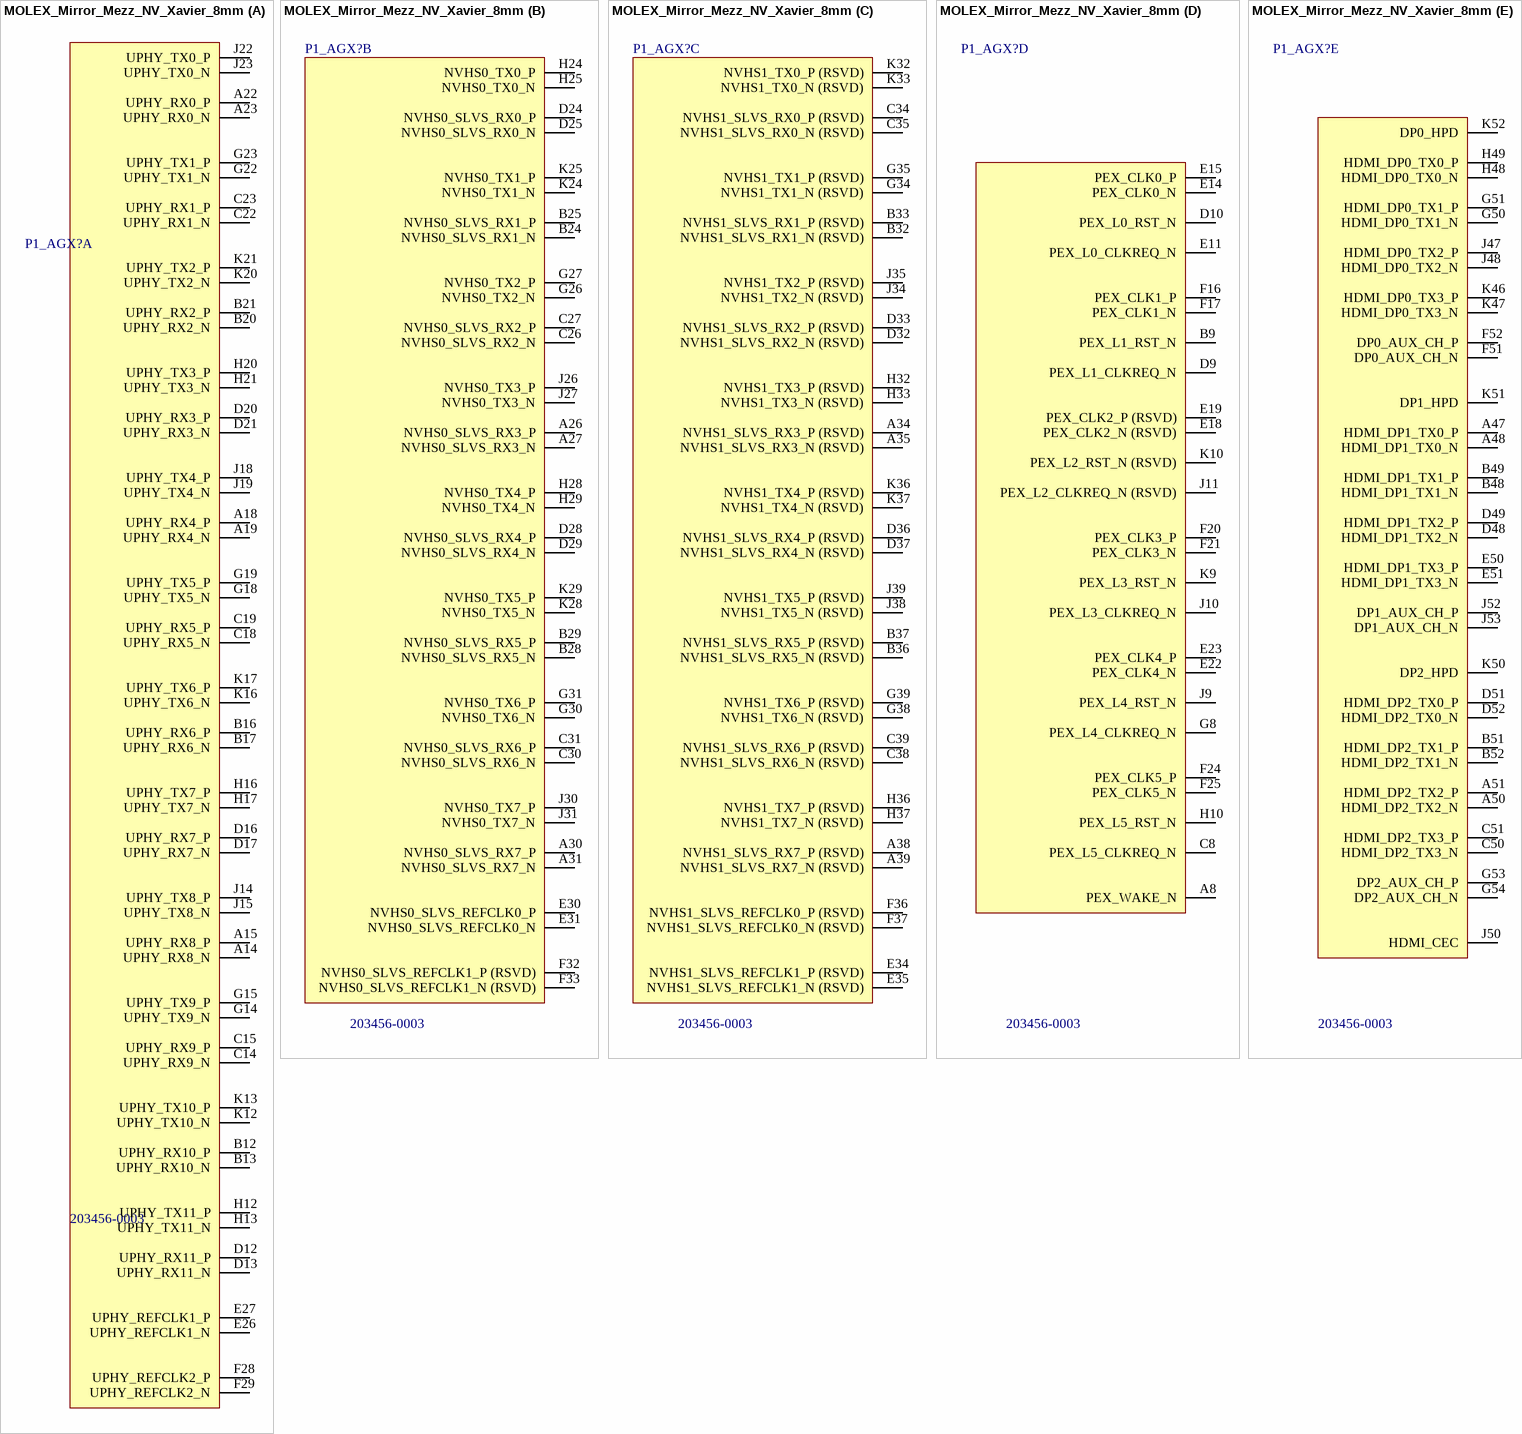
[diagram p13: symbol MOLEX_Mirror_Mezz_NV_Xavier_8mm]

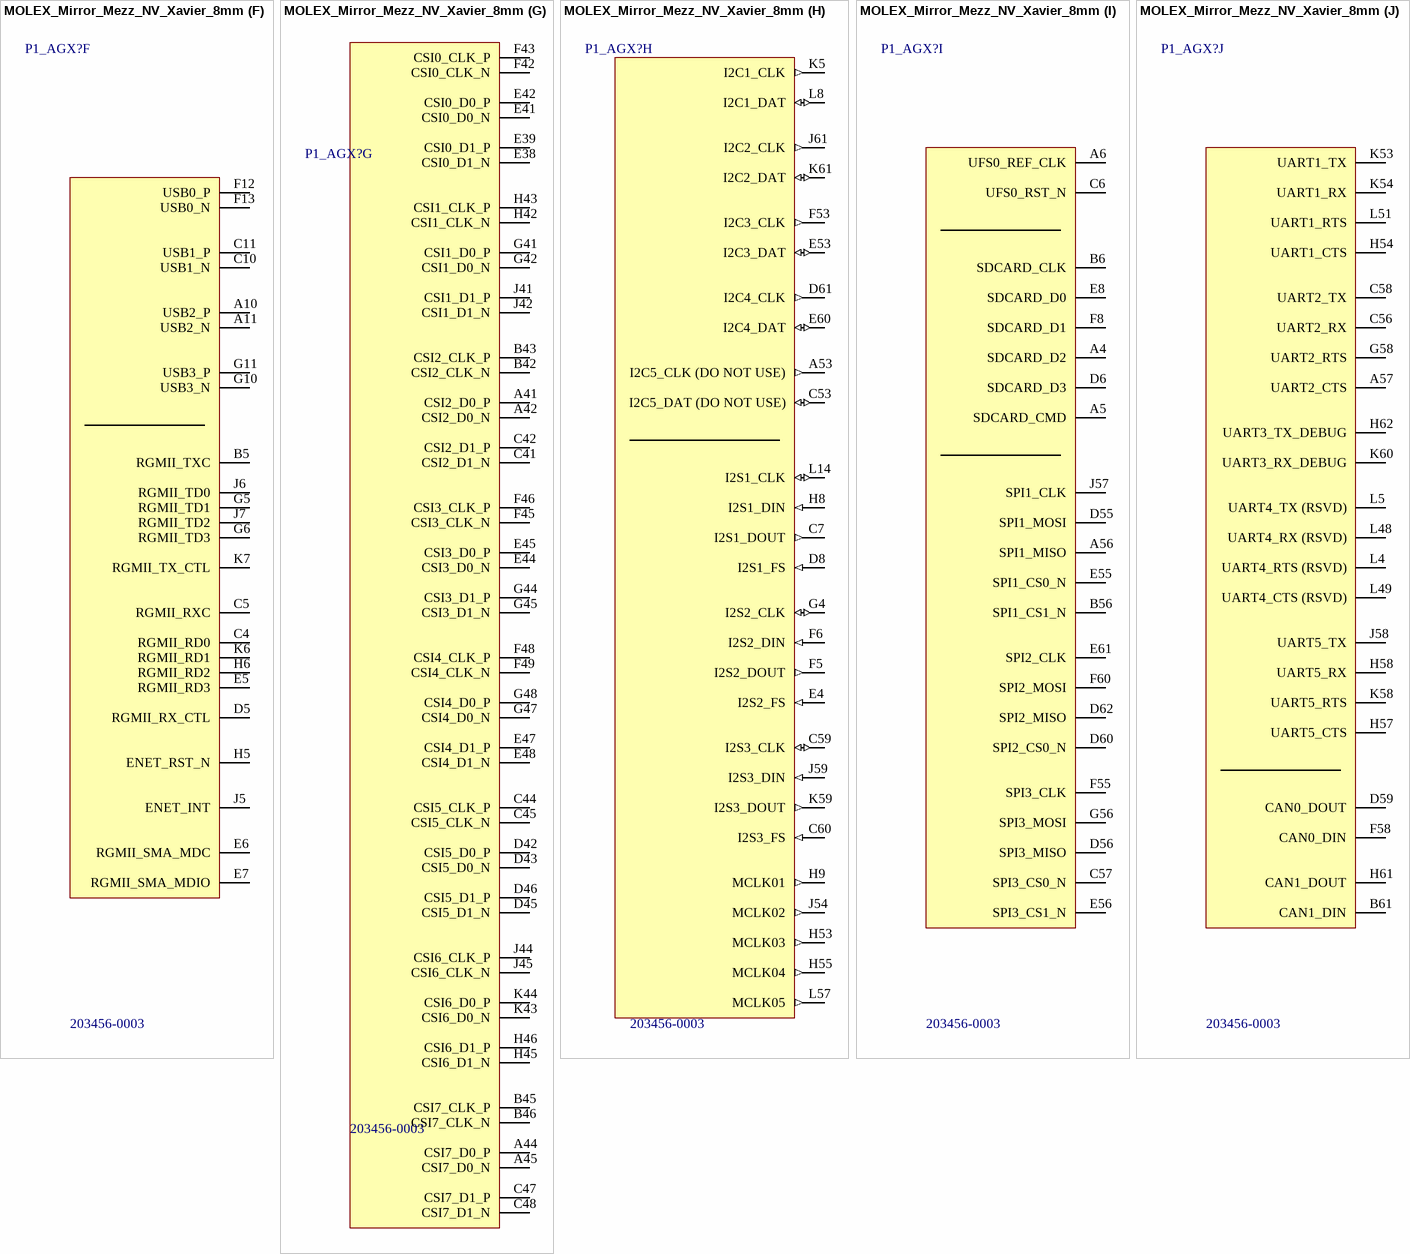
[diagram p14: symbol MOLEX_Mirror_Mezz_NV_Xavier_8mm]

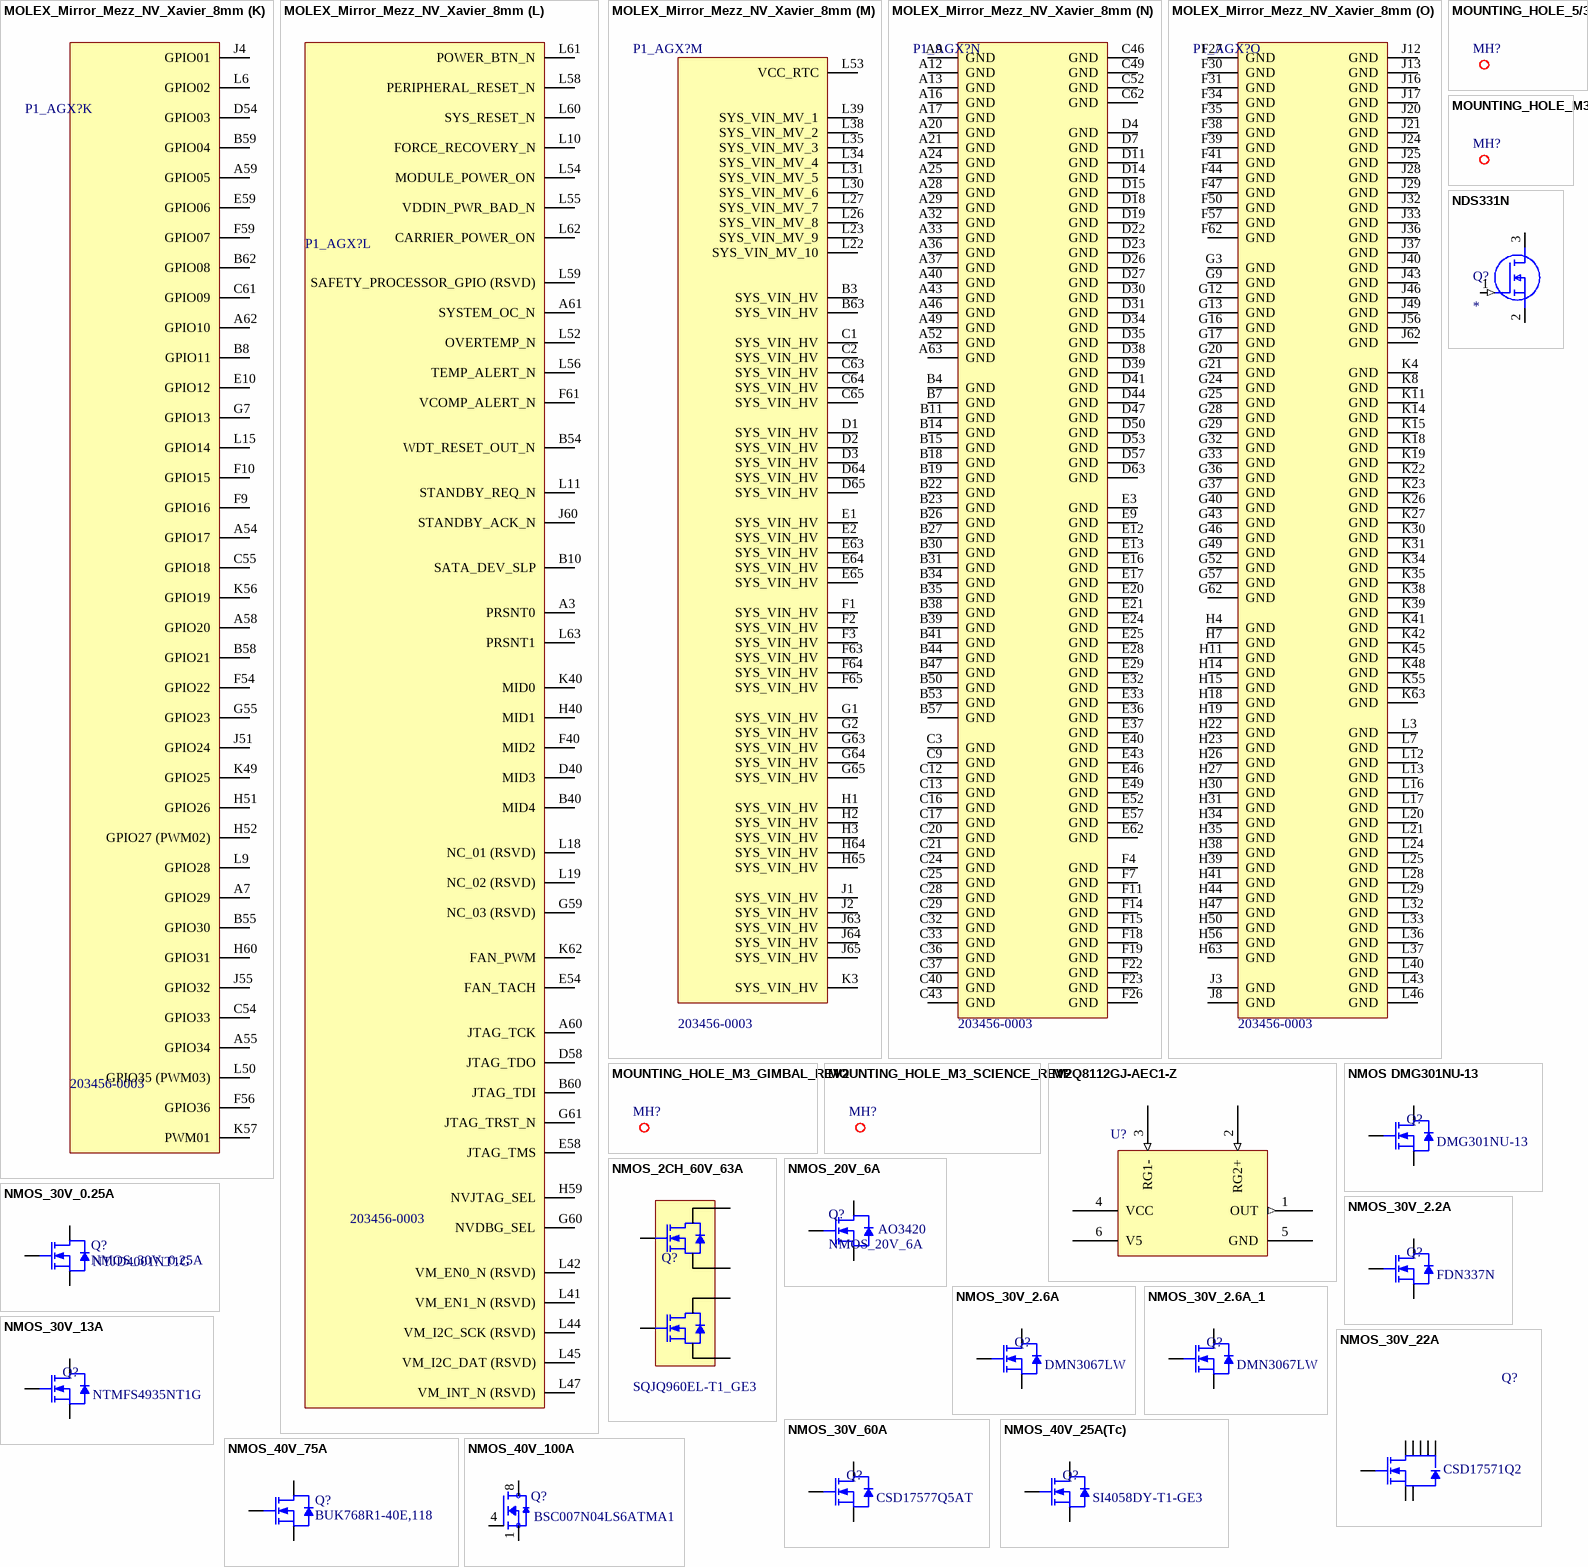
[diagram p15: symbols MOLEX_Mirror_Mezz_NV_Xavier_8mm to NMOS_40V_100A]